# Altium integrated library Microchip DSC 16-Bit dsPIC33F.IntLib: 595 symbols (part 15 of 31)
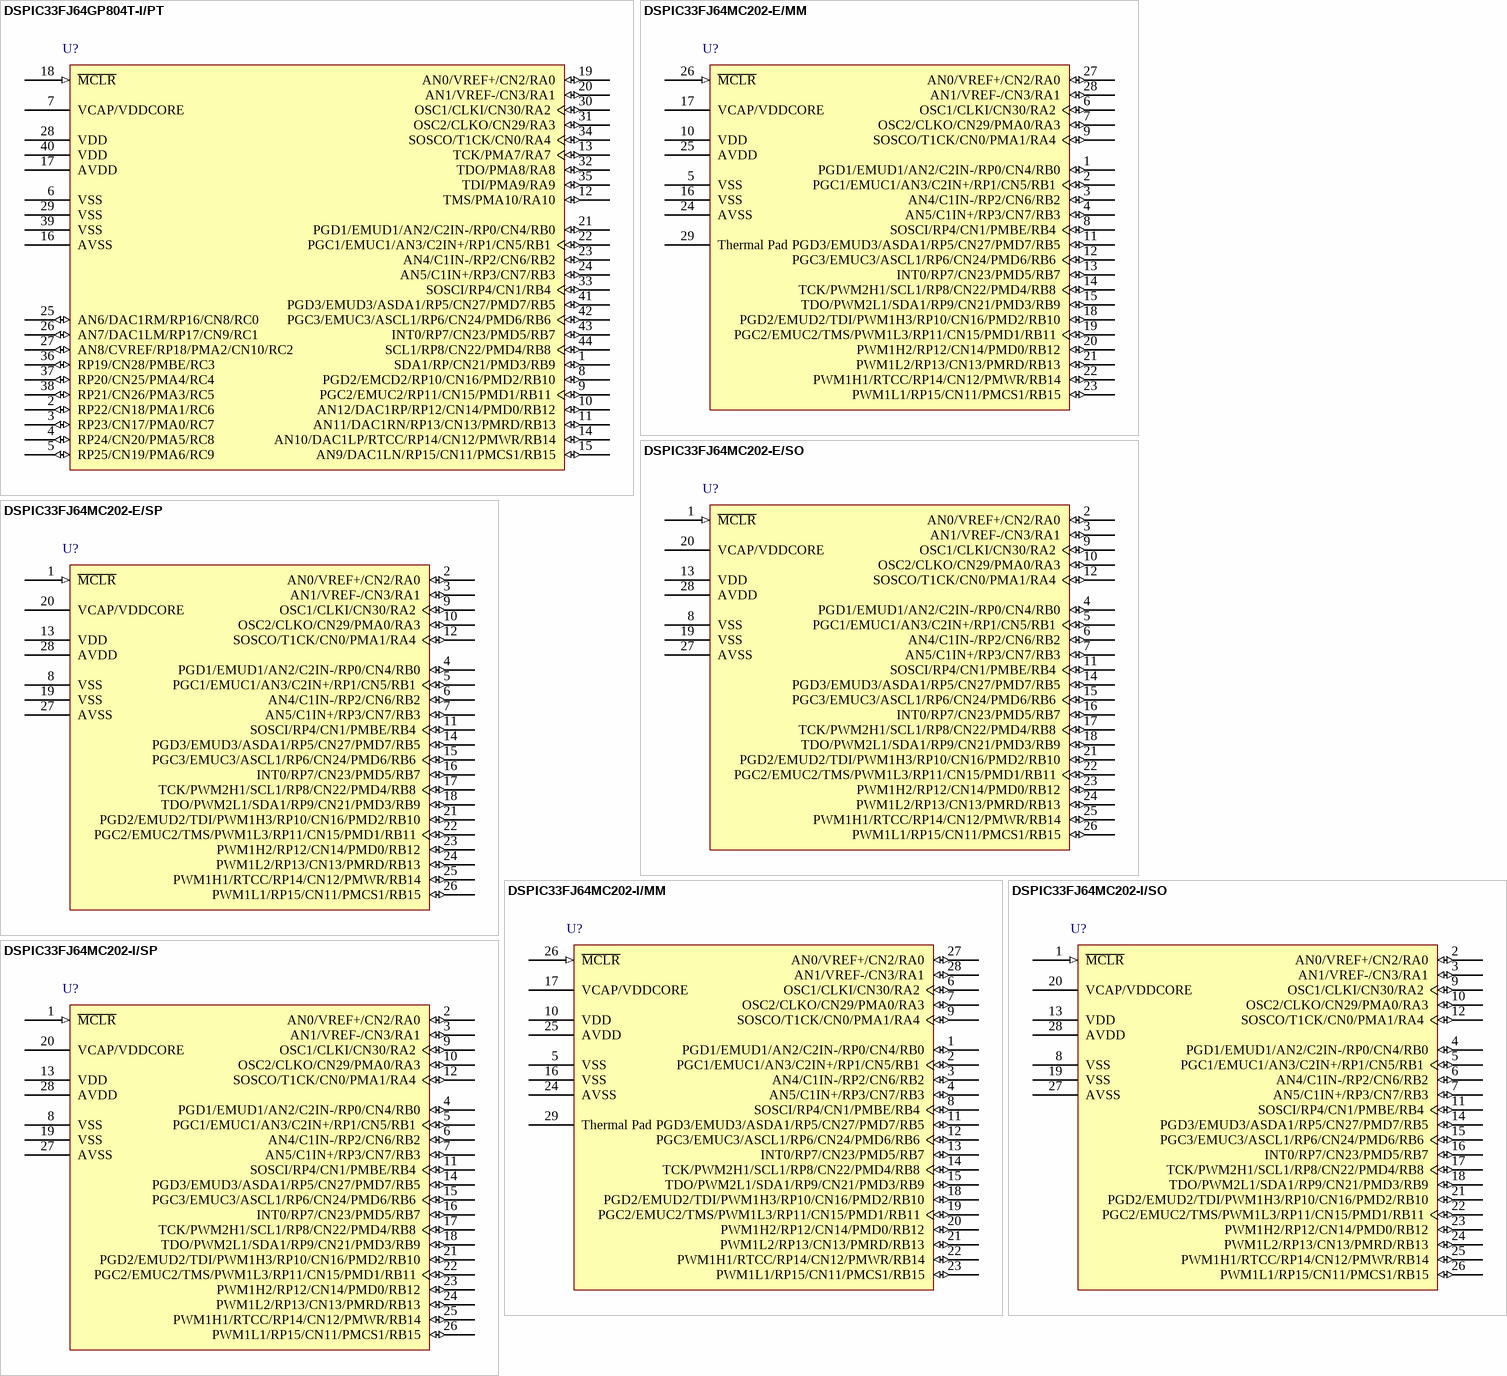
[diagram p132: symbols DSPIC33FJ64GP804T-I/PT to DSPIC33FJ64MC202-I/SP]

## DSPIC33FJ64MC202-E/SP
designator U?
High-Performance 16-bit Digital Signal Controller, 64 KB Flash, 8 KB RAM, 28-Pin SPDIP, Extended High Temperature; FirstPublished: 29-Jan-2009; LatestRevisionDate: 02-Dec-2009; LatestRevisionNote: Updated to datasheet revision D, Nov-2009; DatasheetVersion: revD, Nov-2009; PackageVersion: revBB, Aug-2009; PackageReference: SPDIP300-SP28; Publisher: Altium Limited; PackageDescription: 28-Lead Skinny Plastic Dual In-Line (SP) - 300 mil Body [SPDIP]; Supplier 1: Digi-Key; Supplier Part Number 1: DSPIC33FJ64MC202-E/SP-ND; Supplier 2: Newark; Supplier Part Number 2: 39M8234; ComponentLink1Description: Datasheet; ComponentLink1URL: http://ww1.microchip.com/downloads/en/DeviceDoc/70291D.pdf; ComponentLink2Description: Packaging Specification; ComponentLink2URL: http://www.microchip.com/stellent/groups/techpub_sg/documents/packagingspec/en012702.pdf; ComponentLink3Description: Microchip.com Home; ComponentLink3URL: http://www.microchip.com/
footprint SPDIP300-SP28 (DIP, 28-Leads, Row Spacing 7.62mm, Pitch 2.54mm, Body 34.9x6.8mm)
pins: 1 ~{MCLR} (in), 2 AN0/VREF+/CN2/RA0 (io), 3 AN1/VREF-/CN3/RA1 (io), 4 PGD1/EMUD1/AN2/C2IN-/RP0/CN4/RB0 (io), 5 PGC1/EMUC1/AN3/C2IN+/RP1/CN5/RB1 (io), 6 AN4/C1IN-/RP2/CN6/RB2 (io), 7 AN5/C1IN+/RP3/CN7/RB3 (io), 8 VSS (power), 9 OSC1/CLKI/CN30/RA2 (io), 10 OSC2/CLKO/CN29/PMA0/RA3 (io), 11 SOSCI/RP4/CN1/PMBE/RB4 (io), 12 SOSCO/T1CK/CN0/PMA1/RA4 (io), 13 VDD (power), 14 PGD3/EMUD3/ASDA1/RP5/CN27/PMD7/RB5 (io), 15 PGC3/EMUC3/ASCL1/RP6/CN24/PMD6/RB6 (io), 16 INT0/RP7/CN23/PMD5/RB7 (io), 17 TCK/PWM2H1/SCL1/RP8/CN22/PMD4/RB8 (io), 18 TDO/PWM2L1/SDA1/RP9/CN21/PMD3/RB9 (io), 19 VSS (power), 20 VCAP/VDDCORE (power), 21 PGD2/EMUD2/TDI/PWM1H3/RP10/CN16/PMD2/RB10 (io), 22 PGC2/EMUC2/TMS/PWM1L3/RP11/CN15/PMD1/RB11 (io), 23 PWM1H2/RP12/CN14/PMD0/RB12 (io), 24 PWM1L2/RP13/CN13/PMRD/RB13 (io), 25 PWM1H1/RTCC/RP14/CN12/PMWR/RB14 (io), 26 PWM1L1/RP15/CN11/PMCS1/RB15 (io), 27 AVSS (power), 28 AVDD (power)

## DSPIC33FJ64MC202-I/MM
designator U?
High-Performance 16-bit Digital Signal Controller, 64 KB Flash, 8 KB RAM, 28-Pin QFN, Industrial Temperature; FirstPublished: 2-Dec-2009; DatasheetVersion: revD, Nov-2009; PackageVersion: revBB, Aug-2009; PackageReference: QFNS-MM28; Publisher: Altium Limited; PackageDescription: 28-Lead Plastic Quad Flat, No Lead Package (MM) - 6x6x0.9 mm Body [QFN-S] with 0.40 mm Contact Length; Supplier 1: Digi-Key; Supplier Part Number 1: DSPIC33FJ64MC202-I/MM-ND; Supplier 2: Farnell; Supplier Part Number 2: 1576833; Supplier 3: Newark; Supplier Part Number 3: 77M2377; ComponentLink1Description: Datasheet; ComponentLink1URL: http://ww1.microchip.com/downloads/en/DeviceDoc/70291D.pdf; ComponentLink2Description: Packaging Specification; ComponentLink2URL: http://www.microchip.com/stellent/groups/techpub_sg/documents/packagingspec/en012702.pdf; ComponentLink3Description: Microchip.com Home; ComponentLink3URL: http://www.microchip.com/
footprint QFNS-MM28_N (QFN, 28-Leads, Body 6x6 mm, Pitch 0.65mm, IPC Medium Density)
footprint QFNS-MM28_L (QFN, 28-Leads, Body 6x6 mm, Pitch 0.65mm, IPC High Density)
footprint QFNS-MM28_M (QFN, 28-Leads, Body 6x6 mm, Pitch 0.65mm, IPC Low Density)
pins: 1 PGD1/EMUD1/AN2/C2IN-/RP0/CN4/RB0 (io), 2 PGC1/EMUC1/AN3/C2IN+/RP1/CN5/RB1 (io), 3 AN4/C1IN-/RP2/CN6/RB2 (io), 4 AN5/C1IN+/RP3/CN7/RB3 (io), 5 VSS (power), 6 OSC1/CLKI/CN30/RA2 (io), 7 OSC2/CLKO/CN29/PMA0/RA3 (io), 8 SOSCI/RP4/CN1/PMBE/RB4 (io), 9 SOSCO/T1CK/CN0/PMA1/RA4 (io), 10 VDD (power), 11 PGD3/EMUD3/ASDA1/RP5/CN27/PMD7/RB5 (io), 12 PGC3/EMUC3/ASCL1/RP6/CN24/PMD6/RB6 (io), 13 INT0/RP7/CN23/PMD5/RB7 (io), 14 TCK/PWM2H1/SCL1/RP8/CN22/PMD4/RB8 (io), 15 TDO/PWM2L1/SDA1/RP9/CN21/PMD3/RB9 (io), 16 VSS (power), 17 VCAP/VDDCORE (power), 18 PGD2/EMUD2/TDI/PWM1H3/RP10/CN16/PMD2/RB10 (io), 19 PGC2/EMUC2/TMS/PWM1L3/RP11/CN15/PMD1/RB11 (io), 20 PWM1H2/RP12/CN14/PMD0/RB12 (io), 21 PWM1L2/RP13/CN13/PMRD/RB13 (io), 22 PWM1H1/RTCC/RP14/CN12/PMWR/RB14 (io), 23 PWM1L1/RP15/CN11/PMCS1/RB15 (io), 24 AVSS (power), 25 AVDD (power), 26 ~{MCLR} (in), 27 AN0/VREF+/CN2/RA0 (io), 28 AN1/VREF-/CN3/RA1 (io), 29 Thermal Pad

## DSPIC33FJ64MC202-I/SO
designator U?
High-Performance 16-bit Digital Signal Controller, 64 KB Flash, 8 KB RAM, 28-Pin SOIC, Industrial Temperature; FirstPublished: 2-Dec-2009; DatasheetVersion: revD, Nov-2009; PackageVersion: revBB, Aug-2009; PackageReference: SOIC-SO28; Publisher: Altium Limited; PackageDescription: 28-Lead Plastic Small Outline (SO) - Wide 7.50mm Body [SOIC]; Supplier 1: Digi-Key; Supplier Part Number 1: DSPIC33FJ64MC202-I/SO-ND; Supplier 2: Farnell; Supplier Part Number 2: 1576834; Supplier 3: Newark; Supplier Part Number 3: 39M8235; Code_JEDEC: MS-013; ComponentLink1Description: Datasheet; ComponentLink1URL: http://ww1.microchip.com/downloads/en/DeviceDoc/70291D.pdf; ComponentLink2Description: Packaging Specification; ComponentLink2URL: http://www.microchip.com/stellent/groups/techpub_sg/documents/packagingspec/en012702.pdf; ComponentLink3Description: Microchip.com Home; ComponentLink3URL: http://www.microchip.com/
footprint SOIC-SO28_N (SOIC, 28-Leads, Body 17.9x7.5mm, Pitch 1.27mm, IPC Medium Density)
footprint SOIC-SO28_L (SOIC, 28-Leads, Body 17.9x7.5mm, Pitch 1.27mm, IPC High Density)
footprint SOIC-SO28_M (SOIC, 28-Leads, Body 17.9x7.5mm, Pitch 1.27mm, IPC Low Density)
pins: 1 ~{MCLR} (in), 2 AN0/VREF+/CN2/RA0 (io), 3 AN1/VREF-/CN3/RA1 (io), 4 PGD1/EMUD1/AN2/C2IN-/RP0/CN4/RB0 (io), 5 PGC1/EMUC1/AN3/C2IN+/RP1/CN5/RB1 (io), 6 AN4/C1IN-/RP2/CN6/RB2 (io), 7 AN5/C1IN+/RP3/CN7/RB3 (io), 8 VSS (power), 9 OSC1/CLKI/CN30/RA2 (io), 10 OSC2/CLKO/CN29/PMA0/RA3 (io), 11 SOSCI/RP4/CN1/PMBE/RB4 (io), 12 SOSCO/T1CK/CN0/PMA1/RA4 (io), 13 VDD (power), 14 PGD3/EMUD3/ASDA1/RP5/CN27/PMD7/RB5 (io), 15 PGC3/EMUC3/ASCL1/RP6/CN24/PMD6/RB6 (io), 16 INT0/RP7/CN23/PMD5/RB7 (io), 17 TCK/PWM2H1/SCL1/RP8/CN22/PMD4/RB8 (io), 18 TDO/PWM2L1/SDA1/RP9/CN21/PMD3/RB9 (io), 19 VSS (power), 20 VCAP/VDDCORE (power), 21 PGD2/EMUD2/TDI/PWM1H3/RP10/CN16/PMD2/RB10 (io), 22 PGC2/EMUC2/TMS/PWM1L3/RP11/CN15/PMD1/RB11 (io), 23 PWM1H2/RP12/CN14/PMD0/RB12 (io), 24 PWM1L2/RP13/CN13/PMRD/RB13 (io), 25 PWM1H1/RTCC/RP14/CN12/PMWR/RB14 (io), 26 PWM1L1/RP15/CN11/PMCS1/RB15 (io), 27 AVSS (power), 28 AVDD (power)

## DSPIC33FJ64MC202-I/SP
designator U?
High-Performance 16-bit Digital Signal Controller, 64 KB Flash, 8 KB RAM, 28-Pin SPDIP, Industrial Temperature; FirstPublished: 29-Jan-2009; LatestRevisionDate: 02-Dec-2009; LatestRevisionNote: Updated to datasheet revision D, Nov-2009; DatasheetVersion: revD, Nov-2009; PackageVersion: revBB, Aug-2009; PackageReference: SPDIP300-SP28; Publisher: Altium Limited; PackageDescription: 28-Lead Skinny Plastic Dual In-Line (SP) - 300 mil Body [SPDIP]; Supplier 1: Digi-Key; Supplier Part Number 1: DSPIC33FJ64MC202-I/SP-ND; Supplier 2: Farnell; Supplier Part Number 2: 1576836; Supplier 3: Newark; Supplier Part Number 3: 39M8236; ComponentLink1Description: Datasheet; ComponentLink1URL: http://ww1.microchip.com/downloads/en/DeviceDoc/70291D.pdf; ComponentLink2Description: Packaging Specification; ComponentLink2URL: http://www.microchip.com/stellent/groups/techpub_sg/documents/packagingspec/en012702.pdf; ComponentLink3Description: Microchip.com Home; ComponentLink3URL: http://www.microchip.com/
footprint SPDIP300-SP28 (DIP, 28-Leads, Row Spacing 7.62mm, Pitch 2.54mm, Body 34.9x6.8mm)
pins: 1 ~{MCLR} (in), 2 AN0/VREF+/CN2/RA0 (io), 3 AN1/VREF-/CN3/RA1 (io), 4 PGD1/EMUD1/AN2/C2IN-/RP0/CN4/RB0 (io), 5 PGC1/EMUC1/AN3/C2IN+/RP1/CN5/RB1 (io), 6 AN4/C1IN-/RP2/CN6/RB2 (io), 7 AN5/C1IN+/RP3/CN7/RB3 (io), 8 VSS (power), 9 OSC1/CLKI/CN30/RA2 (io), 10 OSC2/CLKO/CN29/PMA0/RA3 (io), 11 SOSCI/RP4/CN1/PMBE/RB4 (io), 12 SOSCO/T1CK/CN0/PMA1/RA4 (io), 13 VDD (power), 14 PGD3/EMUD3/ASDA1/RP5/CN27/PMD7/RB5 (io), 15 PGC3/EMUC3/ASCL1/RP6/CN24/PMD6/RB6 (io), 16 INT0/RP7/CN23/PMD5/RB7 (io), 17 TCK/PWM2H1/SCL1/RP8/CN22/PMD4/RB8 (io), 18 TDO/PWM2L1/SDA1/RP9/CN21/PMD3/RB9 (io), 19 VSS (power), 20 VCAP/VDDCORE (power), 21 PGD2/EMUD2/TDI/PWM1H3/RP10/CN16/PMD2/RB10 (io), 22 PGC2/EMUC2/TMS/PWM1L3/RP11/CN15/PMD1/RB11 (io), 23 PWM1H2/RP12/CN14/PMD0/RB12 (io), 24 PWM1L2/RP13/CN13/PMRD/RB13 (io), 25 PWM1H1/RTCC/RP14/CN12/PMWR/RB14 (io), 26 PWM1L1/RP15/CN11/PMCS1/RB15 (io), 27 AVSS (power), 28 AVDD (power)

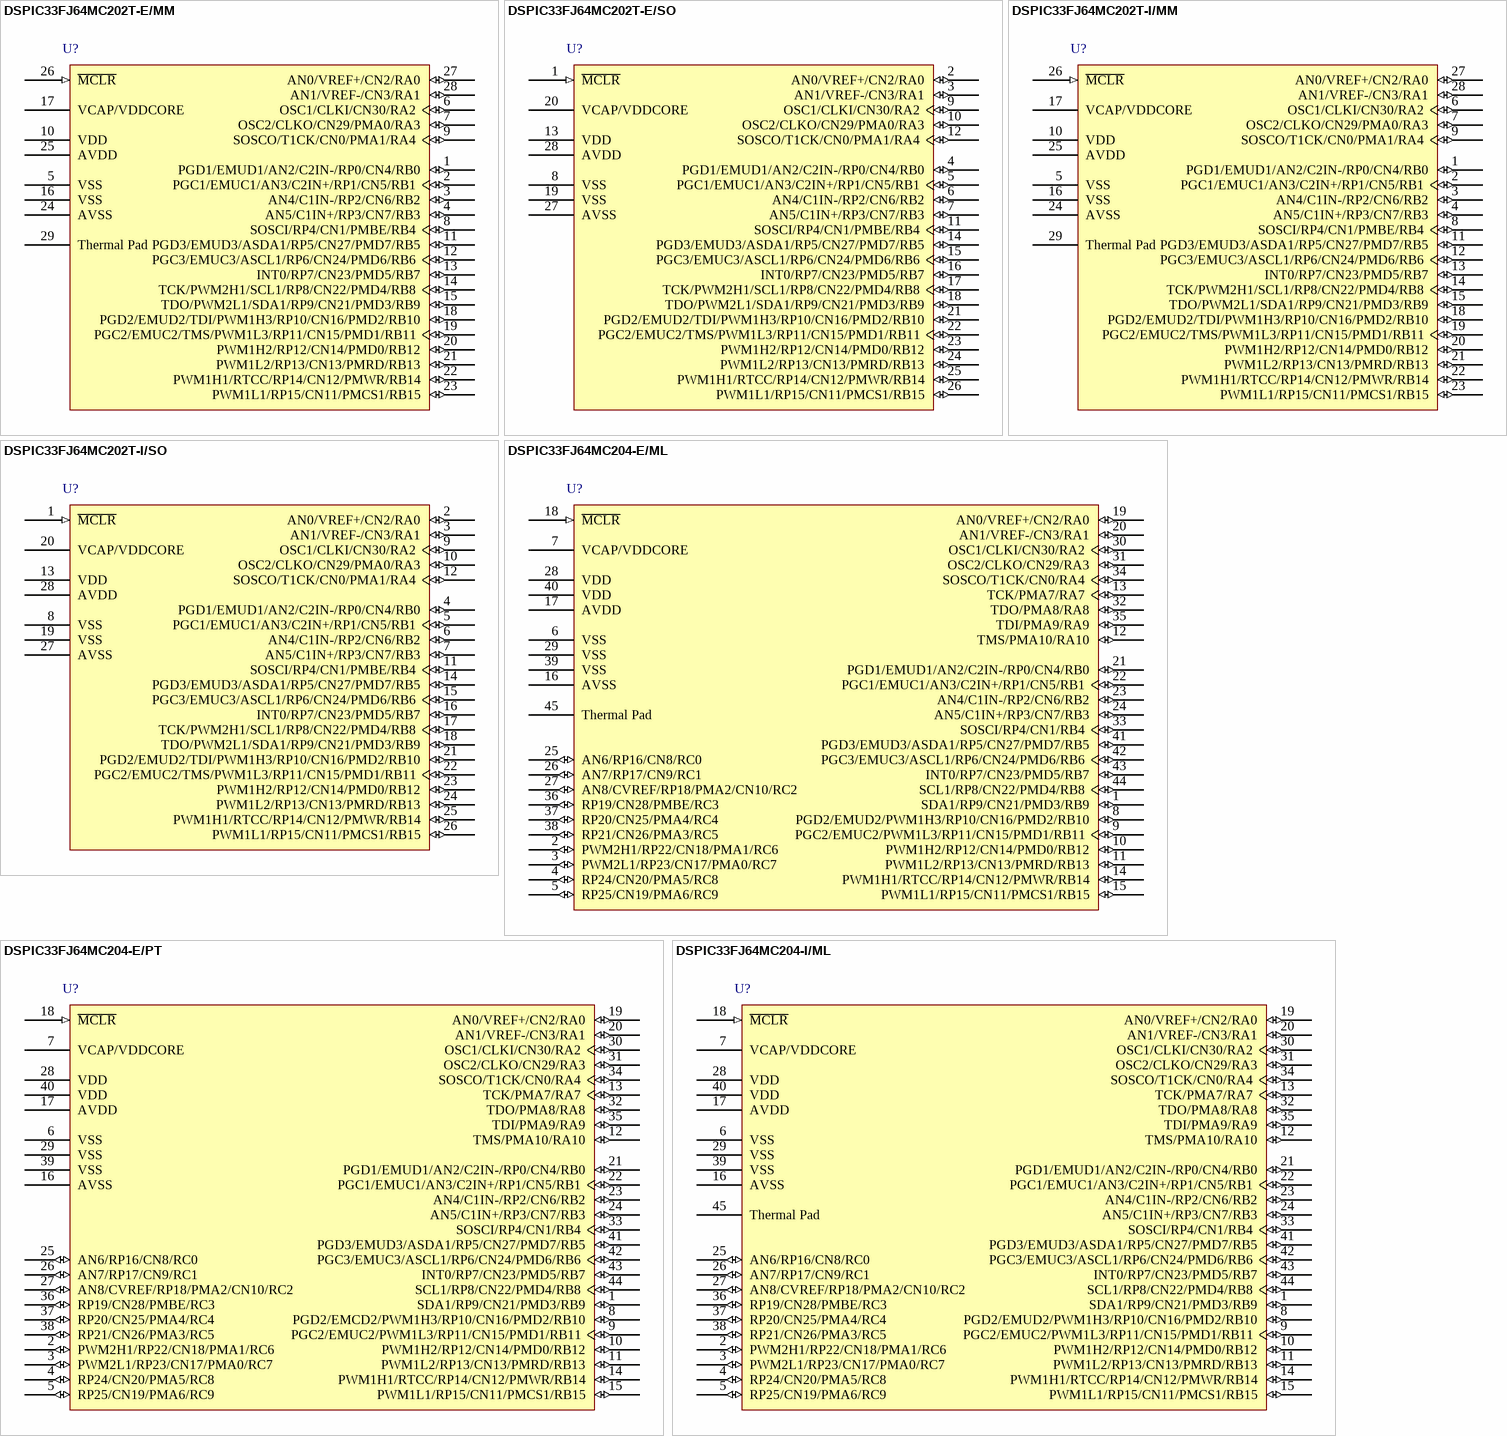
[diagram p48: symbols DSPIC33FJ64MC202T-E/MM to DSPIC33FJ64MC204-I/ML]

## DSPIC33FJ64MC202T-E/MM
designator U?
High-Performance 16-bit Digital Signal Controller, 64 KB Flash, 8 KB RAM, 28-Pin QFN, Extended High Temperature, Tape and Reel; FirstPublished: 29-Jan-2009; LatestRevisionDate: 02-Dec-2009; LatestRevisionNote: Updated to datasheet revision D, Nov-2009; DatasheetVersion: revD, Nov-2009; PackageVersion: revBB, Aug-2009; PackageReference: QFNS-MM28; Publisher: Altium Limited; PackageDescription: 28-Lead Plastic Quad Flat, No Lead Package (MM) - 6x6x0.9 mm Body [QFN-S] with 0.40 mm Contact Length; ComponentLink1Description: Datasheet; ComponentLink1URL: http://ww1.microchip.com/downloads/en/DeviceDoc/70291D.pdf; ComponentLink2Description: Packaging Specification; ComponentLink2URL: http://www.microchip.com/stellent/groups/techpub_sg/documents/packagingspec/en012702.pdf; ComponentLink3Description: Microchip.com Home; ComponentLink3URL: http://www.microchip.com/
footprint QFNS-MM28_N (QFN, 28-Leads, Body 6x6 mm, Pitch 0.65mm, IPC Medium Density)
footprint QFNS-MM28_L (QFN, 28-Leads, Body 6x6 mm, Pitch 0.65mm, IPC High Density)
footprint QFNS-MM28_M (QFN, 28-Leads, Body 6x6 mm, Pitch 0.65mm, IPC Low Density)
pins: 1 PGD1/EMUD1/AN2/C2IN-/RP0/CN4/RB0 (io), 2 PGC1/EMUC1/AN3/C2IN+/RP1/CN5/RB1 (io), 3 AN4/C1IN-/RP2/CN6/RB2 (io), 4 AN5/C1IN+/RP3/CN7/RB3 (io), 5 VSS (power), 6 OSC1/CLKI/CN30/RA2 (io), 7 OSC2/CLKO/CN29/PMA0/RA3 (io), 8 SOSCI/RP4/CN1/PMBE/RB4 (io), 9 SOSCO/T1CK/CN0/PMA1/RA4 (io), 10 VDD (power), 11 PGD3/EMUD3/ASDA1/RP5/CN27/PMD7/RB5 (io), 12 PGC3/EMUC3/ASCL1/RP6/CN24/PMD6/RB6 (io), 13 INT0/RP7/CN23/PMD5/RB7 (io), 14 TCK/PWM2H1/SCL1/RP8/CN22/PMD4/RB8 (io), 15 TDO/PWM2L1/SDA1/RP9/CN21/PMD3/RB9 (io), 16 VSS (power), 17 VCAP/VDDCORE (power), 18 PGD2/EMUD2/TDI/PWM1H3/RP10/CN16/PMD2/RB10 (io), 19 PGC2/EMUC2/TMS/PWM1L3/RP11/CN15/PMD1/RB11 (io), 20 PWM1H2/RP12/CN14/PMD0/RB12 (io), 21 PWM1L2/RP13/CN13/PMRD/RB13 (io), 22 PWM1H1/RTCC/RP14/CN12/PMWR/RB14 (io), 23 PWM1L1/RP15/CN11/PMCS1/RB15 (io), 24 AVSS (power), 25 AVDD (power), 26 ~{MCLR} (in), 27 AN0/VREF+/CN2/RA0 (io), 28 AN1/VREF-/CN3/RA1 (io), 29 Thermal Pad

## DSPIC33FJ64MC202T-E/SO
designator U?
High-Performance 16-bit Digital Signal Controller, 64 KB Flash, 8 KB RAM, 28-Pin SOIC, Extended High Temperature, Tape and Reel; FirstPublished: 29-Jan-2009; LatestRevisionDate: 02-Dec-2009; LatestRevisionNote: Updated to datasheet revision D, Nov-2009; DatasheetVersion: revD, Nov-2009; PackageVersion: revBB, Aug-2009; PackageReference: SOIC-SO28; Publisher: Altium Limited; PackageDescription: 28-Lead Plastic Small Outline (SO) - Wide 7.50mm Body [SOIC]; Code_JEDEC: MS-013; ComponentLink1Description: Datasheet; ComponentLink1URL: http://ww1.microchip.com/downloads/en/DeviceDoc/70291D.pdf; ComponentLink2Description: Packaging Specification; ComponentLink2URL: http://www.microchip.com/stellent/groups/techpub_sg/documents/packagingspec/en012702.pdf; ComponentLink3Description: Microchip.com Home; ComponentLink3URL: http://www.microchip.com/
footprint SOIC-SO28_N (SOIC, 28-Leads, Body 17.9x7.5mm, Pitch 1.27mm, IPC Medium Density)
footprint SOIC-SO28_L (SOIC, 28-Leads, Body 17.9x7.5mm, Pitch 1.27mm, IPC High Density)
footprint SOIC-SO28_M (SOIC, 28-Leads, Body 17.9x7.5mm, Pitch 1.27mm, IPC Low Density)
pins: 1 ~{MCLR} (in), 2 AN0/VREF+/CN2/RA0 (io), 3 AN1/VREF-/CN3/RA1 (io), 4 PGD1/EMUD1/AN2/C2IN-/RP0/CN4/RB0 (io), 5 PGC1/EMUC1/AN3/C2IN+/RP1/CN5/RB1 (io), 6 AN4/C1IN-/RP2/CN6/RB2 (io), 7 AN5/C1IN+/RP3/CN7/RB3 (io), 8 VSS (power), 9 OSC1/CLKI/CN30/RA2 (io), 10 OSC2/CLKO/CN29/PMA0/RA3 (io), 11 SOSCI/RP4/CN1/PMBE/RB4 (io), 12 SOSCO/T1CK/CN0/PMA1/RA4 (io), 13 VDD (power), 14 PGD3/EMUD3/ASDA1/RP5/CN27/PMD7/RB5 (io), 15 PGC3/EMUC3/ASCL1/RP6/CN24/PMD6/RB6 (io), 16 INT0/RP7/CN23/PMD5/RB7 (io), 17 TCK/PWM2H1/SCL1/RP8/CN22/PMD4/RB8 (io), 18 TDO/PWM2L1/SDA1/RP9/CN21/PMD3/RB9 (io), 19 VSS (power), 20 VCAP/VDDCORE (power), 21 PGD2/EMUD2/TDI/PWM1H3/RP10/CN16/PMD2/RB10 (io), 22 PGC2/EMUC2/TMS/PWM1L3/RP11/CN15/PMD1/RB11 (io), 23 PWM1H2/RP12/CN14/PMD0/RB12 (io), 24 PWM1L2/RP13/CN13/PMRD/RB13 (io), 25 PWM1H1/RTCC/RP14/CN12/PMWR/RB14 (io), 26 PWM1L1/RP15/CN11/PMCS1/RB15 (io), 27 AVSS (power), 28 AVDD (power)

## DSPIC33FJ64MC202T-I/MM
designator U?
High-Performance 16-bit Digital Signal Controller, 64 KB Flash, 8 KB RAM, 28-Pin QFN, Industrial Temperature, Tape and Reel; FirstPublished: 29-Jan-2009; LatestRevisionDate: 02-Dec-2009; LatestRevisionNote: Updated to datasheet revision D, Nov-2009; DatasheetVersion: revD, Nov-2009; PackageVersion: revBB, Aug-2009; PackageReference: QFNS-MM28; Publisher: Altium Limited; PackageDescription: 28-Lead Plastic Quad Flat, No Lead Package (MM) - 6x6x0.9 mm Body [QFN-S] with 0.40 mm Contact Length; Supplier 1: Digi-Key; Supplier Part Number 1: DSPIC33FJ64MC202T-I/MM-ND; Supplier 2: Newark; Supplier Part Number 2: 77M2378; ComponentLink1Description: Datasheet; ComponentLink1URL: http://ww1.microchip.com/downloads/en/DeviceDoc/70291D.pdf; ComponentLink2Description: Packaging Specification; ComponentLink2URL: http://www.microchip.com/stellent/groups/techpub_sg/documents/packagingspec/en012702.pdf; ComponentLink3Description: Microchip.com Home; ComponentLink3URL: http://www.microchip.com/
footprint QFNS-MM28_N (QFN, 28-Leads, Body 6x6 mm, Pitch 0.65mm, IPC Medium Density)
footprint QFNS-MM28_L (QFN, 28-Leads, Body 6x6 mm, Pitch 0.65mm, IPC High Density)
footprint QFNS-MM28_M (QFN, 28-Leads, Body 6x6 mm, Pitch 0.65mm, IPC Low Density)
pins: 1 PGD1/EMUD1/AN2/C2IN-/RP0/CN4/RB0 (io), 2 PGC1/EMUC1/AN3/C2IN+/RP1/CN5/RB1 (io), 3 AN4/C1IN-/RP2/CN6/RB2 (io), 4 AN5/C1IN+/RP3/CN7/RB3 (io), 5 VSS (power), 6 OSC1/CLKI/CN30/RA2 (io), 7 OSC2/CLKO/CN29/PMA0/RA3 (io), 8 SOSCI/RP4/CN1/PMBE/RB4 (io), 9 SOSCO/T1CK/CN0/PMA1/RA4 (io), 10 VDD (power), 11 PGD3/EMUD3/ASDA1/RP5/CN27/PMD7/RB5 (io), 12 PGC3/EMUC3/ASCL1/RP6/CN24/PMD6/RB6 (io), 13 INT0/RP7/CN23/PMD5/RB7 (io), 14 TCK/PWM2H1/SCL1/RP8/CN22/PMD4/RB8 (io), 15 TDO/PWM2L1/SDA1/RP9/CN21/PMD3/RB9 (io), 16 VSS (power), 17 VCAP/VDDCORE (power), 18 PGD2/EMUD2/TDI/PWM1H3/RP10/CN16/PMD2/RB10 (io), 19 PGC2/EMUC2/TMS/PWM1L3/RP11/CN15/PMD1/RB11 (io), 20 PWM1H2/RP12/CN14/PMD0/RB12 (io), 21 PWM1L2/RP13/CN13/PMRD/RB13 (io), 22 PWM1H1/RTCC/RP14/CN12/PMWR/RB14 (io), 23 PWM1L1/RP15/CN11/PMCS1/RB15 (io), 24 AVSS (power), 25 AVDD (power), 26 ~{MCLR} (in), 27 AN0/VREF+/CN2/RA0 (io), 28 AN1/VREF-/CN3/RA1 (io), 29 Thermal Pad

## DSPIC33FJ64MC202T-I/SO
designator U?
High-Performance 16-bit Digital Signal Controller, 64 KB Flash, 8 KB RAM, 28-Pin SOIC, Industrial Temperature, Tape and Reel; FirstPublished: 29-Jan-2009; LatestRevisionDate: 02-Dec-2009; LatestRevisionNote: Updated to datasheet revision D, Nov-2009; DatasheetVersion: revD, Nov-2009; PackageVersion: revBB, Aug-2009; PackageReference: SOIC-SO28; Publisher: Altium Limited; PackageDescription: 28-Lead Plastic Small Outline (SO) - Wide 7.50mm Body [SOIC]; Supplier 1: Digi-Key; Supplier Part Number 1: DSPIC33FJ64MC202T-I/SOTR-ND; Supplier 2: Newark; Supplier Part Number 2: 39M8237; Code_JEDEC: MS-013; ComponentLink1Description: Datasheet; ComponentLink1URL: http://ww1.microchip.com/downloads/en/DeviceDoc/70291D.pdf; ComponentLink2Description: Packaging Specification; ComponentLink2URL: http://www.microchip.com/stellent/groups/techpub_sg/documents/packagingspec/en012702.pdf; ComponentLink3Description: Microchip.com Home; ComponentLink3URL: http://www.microchip.com/
footprint SOIC-SO28_N (SOIC, 28-Leads, Body 17.9x7.5mm, Pitch 1.27mm, IPC Medium Density)
footprint SOIC-SO28_L (SOIC, 28-Leads, Body 17.9x7.5mm, Pitch 1.27mm, IPC High Density)
footprint SOIC-SO28_M (SOIC, 28-Leads, Body 17.9x7.5mm, Pitch 1.27mm, IPC Low Density)
pins: 1 ~{MCLR} (in), 2 AN0/VREF+/CN2/RA0 (io), 3 AN1/VREF-/CN3/RA1 (io), 4 PGD1/EMUD1/AN2/C2IN-/RP0/CN4/RB0 (io), 5 PGC1/EMUC1/AN3/C2IN+/RP1/CN5/RB1 (io), 6 AN4/C1IN-/RP2/CN6/RB2 (io), 7 AN5/C1IN+/RP3/CN7/RB3 (io), 8 VSS (power), 9 OSC1/CLKI/CN30/RA2 (io), 10 OSC2/CLKO/CN29/PMA0/RA3 (io), 11 SOSCI/RP4/CN1/PMBE/RB4 (io), 12 SOSCO/T1CK/CN0/PMA1/RA4 (io), 13 VDD (power), 14 PGD3/EMUD3/ASDA1/RP5/CN27/PMD7/RB5 (io), 15 PGC3/EMUC3/ASCL1/RP6/CN24/PMD6/RB6 (io), 16 INT0/RP7/CN23/PMD5/RB7 (io), 17 TCK/PWM2H1/SCL1/RP8/CN22/PMD4/RB8 (io), 18 TDO/PWM2L1/SDA1/RP9/CN21/PMD3/RB9 (io), 19 VSS (power), 20 VCAP/VDDCORE (power), 21 PGD2/EMUD2/TDI/PWM1H3/RP10/CN16/PMD2/RB10 (io), 22 PGC2/EMUC2/TMS/PWM1L3/RP11/CN15/PMD1/RB11 (io), 23 PWM1H2/RP12/CN14/PMD0/RB12 (io), 24 PWM1L2/RP13/CN13/PMRD/RB13 (io), 25 PWM1H1/RTCC/RP14/CN12/PMWR/RB14 (io), 26 PWM1L1/RP15/CN11/PMCS1/RB15 (io), 27 AVSS (power), 28 AVDD (power)

## DSPIC33FJ64MC204-E/ML
designator U?
High-Performance 16-bit Digital Signal Controller, 64 KB Flash, 8 KB RAM, 44-Pin QFN, Extended High Temperature; FirstPublished: 29-Jan-2009; LatestRevisionDate: 02-Dec-2009; LatestRevisionNote: Updated to datasheet revision D, Nov-2009; DatasheetVersion: revD, Nov-2009; PackageVersion: revBB, Aug-2009; PackageReference: QFN-ML44; Publisher: Altium Limited; PackageDescription: 44-Lead Plastic Quad Flat, No Lead Package (ML) - 8x8 mm Body [QFN]; Supplier 1: Digi-Key; Supplier Part Number 1: DSPIC33FJ64MC204-E/ML-ND; Supplier 2: Newark; Supplier Part Number 2: 39M8238; Code_JEDEC: MO-220; Code_IPC: QFN65P800X800-44V2; ComponentLink1Description: Datasheet; ComponentLink1URL: http://ww1.microchip.com/downloads/en/DeviceDoc/70291D.pdf; ComponentLink2Description: Packaging Specification; ComponentLink2URL: http://www.microchip.com/stellent/groups/techpub_sg/documents/packagingspec/en012702.pdf; ComponentLink3Description: Microchip.com Home; ComponentLink3URL: http://www.microchip.com/
footprint QFN-ML44_N (QFN, 44-Leads, Body 8x8 mm, Pitch 0.65mm, IPC Medium Density)
footprint QFN-ML44_L (QFN, 44-Leads, Body 8x8 mm, Pitch 0.65mm, IPC High Density)
footprint QFN-ML44_M (QFN, 44-Leads, Body 8x8 mm, Pitch 0.65mm, IPC Low Density)
pins: 1 SDA1/RP9/CN21/PMD3/RB9 (io), 2 PWM2H1/RP22/CN18/PMA1/RC6 (io), 3 PWM2L1/RP23/CN17/PMA0/RC7 (io), 4 RP24/CN20/PMA5/RC8 (io), 5 RP25/CN19/PMA6/RC9 (io), 6 VSS (power), 7 VCAP/VDDCORE (power), 8 PGD2/EMUD2/PWM1H3/RP10/CN16/PMD2/RB10 (io), 9 PGC2/EMUC2/PWM1L3/RP11/CN15/PMD1/RB11 (io), 10 PWM1H2/RP12/CN14/PMD0/RB12 (io), 11 PWM1L2/RP13/CN13/PMRD/RB13 (io), 12 TMS/PMA10/RA10 (io), 13 TCK/PMA7/RA7 (io), 14 PWM1H1/RTCC/RP14/CN12/PMWR/RB14 (io), 15 PWM1L1/RP15/CN11/PMCS1/RB15 (io), 16 AVSS (power), 17 AVDD (power), 18 ~{MCLR} (in), 19 AN0/VREF+/CN2/RA0 (io), 20 AN1/VREF-/CN3/RA1 (io), 21 PGD1/EMUD1/AN2/C2IN-/RP0/CN4/RB0 (io), 22 PGC1/EMUC1/AN3/C2IN+/RP1/CN5/RB1 (io), 23 AN4/C1IN-/RP2/CN6/RB2 (io), 24 AN5/C1IN+/RP3/CN7/RB3 (io), 25 AN6/RP16/CN8/RC0 (io), 26 AN7/RP17/CN9/RC1 (io), 27 AN8/CVREF/RP18/PMA2/CN10/RC2 (io), 28 VDD (power), 29 VSS (power), 30 OSC1/CLKI/CN30/RA2 (io), 31 OSC2/CLKO/CN29/RA3 (io), 32 TDO/PMA8/RA8 (io), 33 SOSCI/RP4/CN1/RB4 (io), 34 SOSCO/T1CK/CN0/RA4 (io), 35 TDI/PMA9/RA9 (io), 36 RP19/CN28/PMBE/RC3 (io), 37 RP20/CN25/PMA4/RC4 (io), 38 RP21/CN26/PMA3/RC5 (io), 39 VSS (power), 40 VDD (power), 41 PGD3/EMUD3/ASDA1/RP5/CN27/PMD7/RB5 (io), 42 PGC3/EMUC3/ASCL1/RP6/CN24/PMD6/RB6 (io), 43 INT0/RP7/CN23/PMD5/RB7 (io), 44 SCL1/RP8/CN22/PMD4/RB8 (io), 45 Thermal Pad

## DSPIC33FJ64MC204-E/PT
designator U?
High-Performance 16-bit Digital Signal Controller, 64 KB Flash, 8 KB RAM, 44-Pin TQFP, Extended High Temperature; FirstPublished: 29-Jan-2009; LatestRevisionDate: 02-Dec-2009; LatestRevisionNote: Updated to datasheet revision D, Nov-2009; DatasheetVersion: revD, Nov-2009; PackageVersion: revBB, Aug-2009; PackageReference: TQFP-PT44; Publisher: Altium Limited; PackageDescription: 44-Lead Plastic Thin Quad Flatpack (PT) - 10x10x1mm Body, 2.00mm [TQFP]; Supplier 1: Digi-Key; Supplier Part Number 1: DSPIC33FJ64MC204-E/PT-ND; Supplier 2: Newark; Supplier Part Number 2: 39M8239; Code_JEDEC: MS-026; ComponentLink1Description: Datasheet; ComponentLink1URL: http://ww1.microchip.com/downloads/en/DeviceDoc/70291D.pdf; ComponentLink2Description: Packaging Specification; ComponentLink2URL: http://www.microchip.com/stellent/groups/techpub_sg/documents/packagingspec/en012702.pdf; ComponentLink3Description: Microchip.com Home; ComponentLink3URL: http://www.microchip.com/
footprint TQFP-PT44_N (Thin QFP, 44-Leads, Body 10x10mm, Pitch 0.8mm, IPC Medium Density)
footprint TQFP-PT44_L (Thin QFP, 44-Leads, Body 10x10mm, Pitch 0.8mm, IPC High Density)
footprint TQFP-PT44_M (Thin QFP, 44-Leads, Body 10x10mm, Pitch 0.8mm, IPC Low Density)
pins: 1 SDA1/RP9/CN21/PMD3/RB9 (io), 2 PWM2H1/RP22/CN18/PMA1/RC6 (io), 3 PWM2L1/RP23/CN17/PMA0/RC7 (io), 4 RP24/CN20/PMA5/RC8 (io), 5 RP25/CN19/PMA6/RC9 (io), 6 VSS (power), 7 VCAP/VDDCORE (power), 8 PGD2/EMCD2/PWM1H3/RP10/CN16/PMD2/RB10 (io), 9 PGC2/EMUC2/PWM1L3/RP11/CN15/PMD1/RB11 (io), 10 PWM1H2/RP12/CN14/PMD0/RB12 (io), 11 PWM1L2/RP13/CN13/PMRD/RB13 (io), 12 TMS/PMA10/RA10 (io), 13 TCK/PMA7/RA7 (io), 14 PWM1H1/RTCC/RP14/CN12/PMWR/RB14 (io), 15 PWM1L1/RP15/CN11/PMCS1/RB15 (io), 16 AVSS (power), 17 AVDD (power), 18 ~{MCLR} (in), 19 AN0/VREF+/CN2/RA0 (io), 20 AN1/VREF-/CN3/RA1 (io), 21 PGD1/EMUD1/AN2/C2IN-/RP0/CN4/RB0 (io), 22 PGC1/EMUC1/AN3/C2IN+/RP1/CN5/RB1 (io), 23 AN4/C1IN-/RP2/CN6/RB2 (io), 24 AN5/C1IN+/RP3/CN7/RB3 (io), 25 AN6/RP16/CN8/RC0 (io), 26 AN7/RP17/CN9/RC1 (io), 27 AN8/CVREF/RP18/PMA2/CN10/RC2 (io), 28 VDD (power), 29 VSS (power), 30 OSC1/CLKI/CN30/RA2 (io), 31 OSC2/CLKO/CN29/RA3 (io), 32 TDO/PMA8/RA8 (io), 33 SOSCI/RP4/CN1/RB4 (io), 34 SOSCO/T1CK/CN0/RA4 (io), 35 TDI/PMA9/RA9 (io), 36 RP19/CN28/PMBE/RC3 (io), 37 RP20/CN25/PMA4/RC4 (io), 38 RP21/CN26/PMA3/RC5 (io), 39 VSS (power), 40 VDD (power), 41 PGD3/EMUD3/ASDA1/RP5/CN27/PMD7/RB5 (io), 42 PGC3/EMUC3/ASCL1/RP6/CN24/PMD6/RB6 (io), 43 INT0/RP7/CN23/PMD5/RB7 (io), 44 SCL1/RP8/CN22/PMD4/RB8 (io)

## DSPIC33FJ64MC204-I/ML
designator U?
High-Performance 16-bit Digital Signal Controller, 64 KB Flash, 8 KB RAM, 44-Pin QFN, Industrial Temperature; FirstPublished: 29-Jan-2009; LatestRevisionDate: 02-Dec-2009; LatestRevisionNote: Updated to datasheet revision D, Nov-2009; DatasheetVersion: revD, Nov-2009; PackageVersion: revBB, Aug-2009; PackageReference: QFN-ML44; Publisher: Altium Limited; PackageDescription: 44-Lead Plastic Quad Flat, No Lead Package (ML) - 8x8 mm Body [QFN]; Supplier 1: Digi-Key; Supplier Part Number 1: DSPIC33FJ64MC204-I/ML-ND; Supplier 2: Farnell; Supplier Part Number 2: 1576837; Supplier 3: Newark; Supplier Part Number 3: 39M8240; Code_JEDEC: MO-220; Code_IPC: QFN65P800X800-44V2; ComponentLink1Description: Datasheet; ComponentLink1URL: http://ww1.microchip.com/downloads/en/DeviceDoc/70291D.pdf; ComponentLink2Description: Packaging Specification; ComponentLink2URL: http://www.microchip.com/stellent/groups/techpub_sg/documents/packagingspec/en012702.pdf; ComponentLink3Description: Microchip.com Home; ComponentLink3URL: http://www.microchip.com/
footprint QFN-ML44_N (QFN, 44-Leads, Body 8x8 mm, Pitch 0.65mm, IPC Medium Density)
footprint QFN-ML44_L (QFN, 44-Leads, Body 8x8 mm, Pitch 0.65mm, IPC High Density)
footprint QFN-ML44_M (QFN, 44-Leads, Body 8x8 mm, Pitch 0.65mm, IPC Low Density)
pins: 1 SDA1/RP9/CN21/PMD3/RB9 (io), 2 PWM2H1/RP22/CN18/PMA1/RC6 (io), 3 PWM2L1/RP23/CN17/PMA0/RC7 (io), 4 RP24/CN20/PMA5/RC8 (io), 5 RP25/CN19/PMA6/RC9 (io), 6 VSS (power), 7 VCAP/VDDCORE (power), 8 PGD2/EMUD2/PWM1H3/RP10/CN16/PMD2/RB10 (io), 9 PGC2/EMUC2/PWM1L3/RP11/CN15/PMD1/RB11 (io), 10 PWM1H2/RP12/CN14/PMD0/RB12 (io), 11 PWM1L2/RP13/CN13/PMRD/RB13 (io), 12 TMS/PMA10/RA10 (io), 13 TCK/PMA7/RA7 (io), 14 PWM1H1/RTCC/RP14/CN12/PMWR/RB14 (io), 15 PWM1L1/RP15/CN11/PMCS1/RB15 (io), 16 AVSS (power), 17 AVDD (power), 18 ~{MCLR} (in), 19 AN0/VREF+/CN2/RA0 (io), 20 AN1/VREF-/CN3/RA1 (io), 21 PGD1/EMUD1/AN2/C2IN-/RP0/CN4/RB0 (io), 22 PGC1/EMUC1/AN3/C2IN+/RP1/CN5/RB1 (io), 23 AN4/C1IN-/RP2/CN6/RB2 (io), 24 AN5/C1IN+/RP3/CN7/RB3 (io), 25 AN6/RP16/CN8/RC0 (io), 26 AN7/RP17/CN9/RC1 (io), 27 AN8/CVREF/RP18/PMA2/CN10/RC2 (io), 28 VDD (power), 29 VSS (power), 30 OSC1/CLKI/CN30/RA2 (io), 31 OSC2/CLKO/CN29/RA3 (io), 32 TDO/PMA8/RA8 (io), 33 SOSCI/RP4/CN1/RB4 (io), 34 SOSCO/T1CK/CN0/RA4 (io), 35 TDI/PMA9/RA9 (io), 36 RP19/CN28/PMBE/RC3 (io), 37 RP20/CN25/PMA4/RC4 (io), 38 RP21/CN26/PMA3/RC5 (io), 39 VSS (power), 40 VDD (power), 41 PGD3/EMUD3/ASDA1/RP5/CN27/PMD7/RB5 (io), 42 PGC3/EMUC3/ASCL1/RP6/CN24/PMD6/RB6 (io), 43 INT0/RP7/CN23/PMD5/RB7 (io), 44 SCL1/RP8/CN22/PMD4/RB8 (io), 45 Thermal Pad

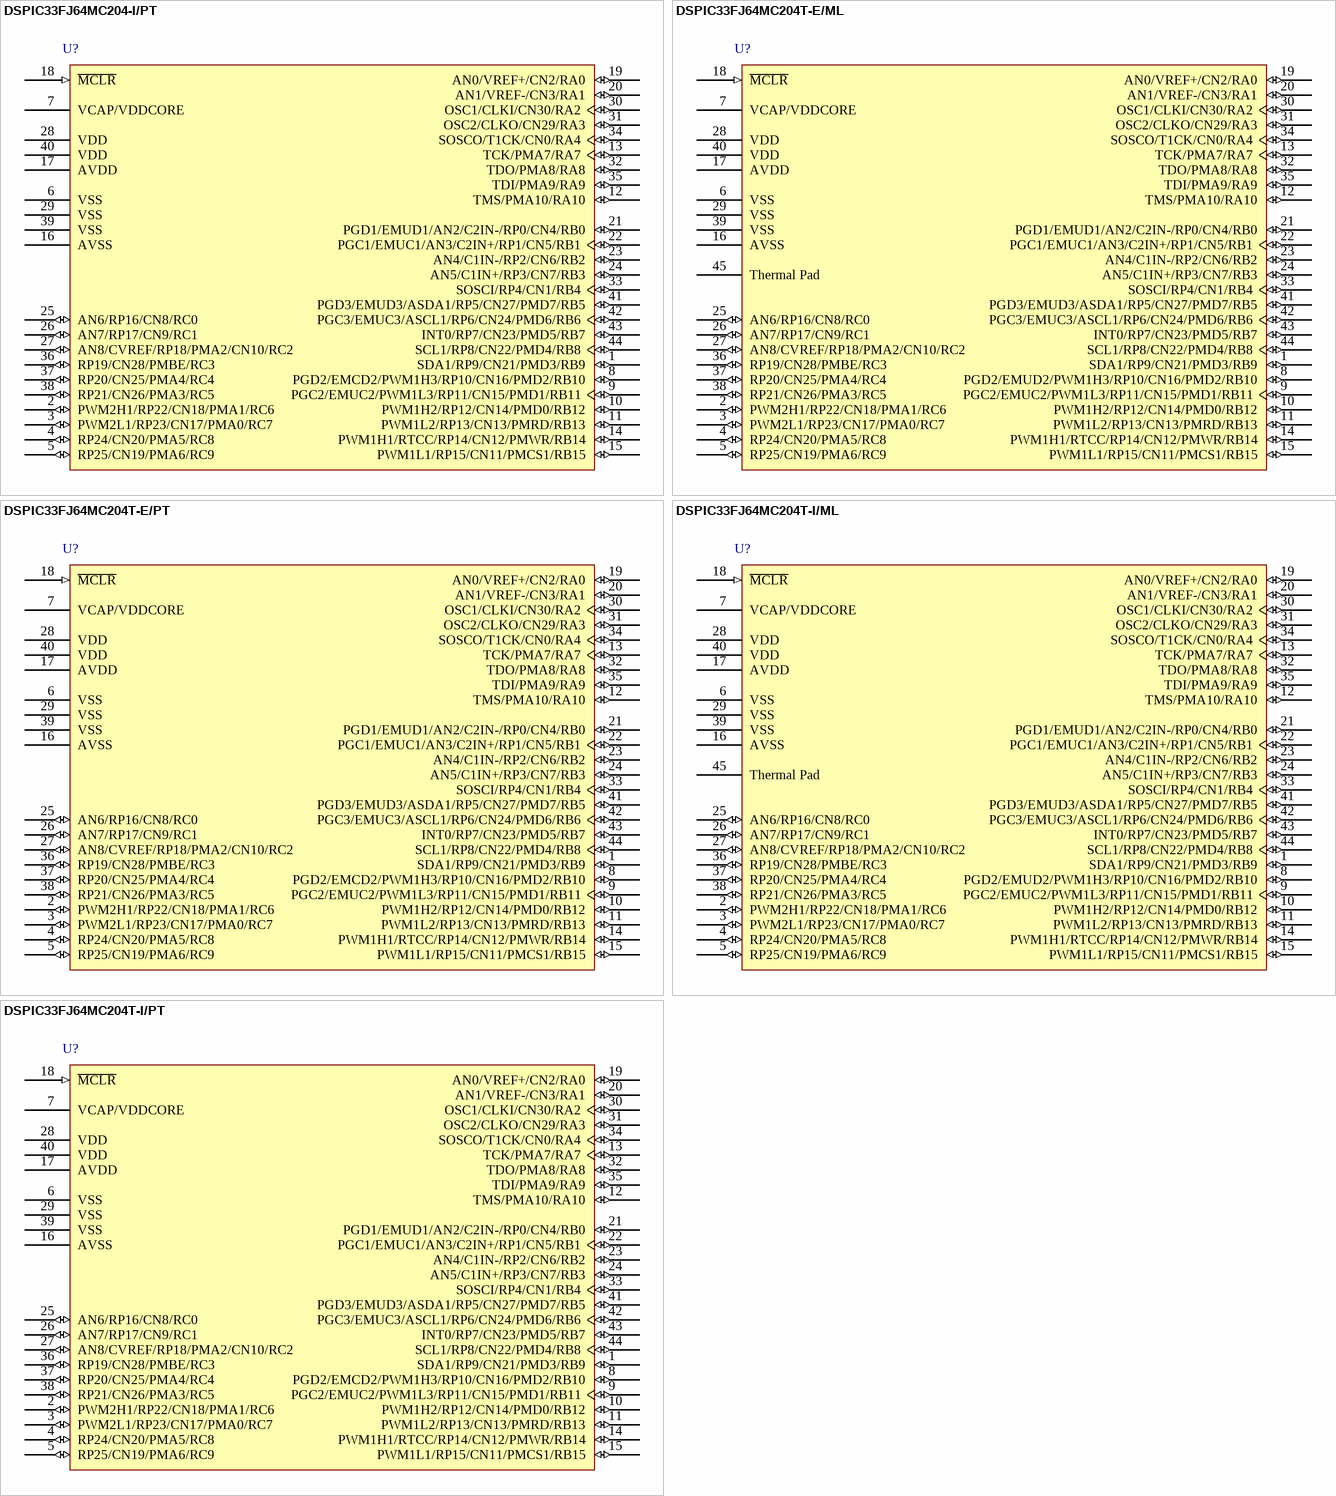
[diagram p49: symbols DSPIC33FJ64MC204-I/PT to DSPIC33FJ64MC204T-I/PT]

## DSPIC33FJ64MC204-I/PT
designator U?
High-Performance 16-bit Digital Signal Controller, 64 KB Flash, 8 KB RAM, 44-Pin TQFP, Industrial Temperature; FirstPublished: 2-Dec-2009; DatasheetVersion: revD, Nov-2009; PackageVersion: revBB, Aug-2009; PackageReference: TQFP-PT44; Publisher: Altium Limited; PackageDescription: 44-Lead Plastic Thin Quad Flatpack (PT) - 10x10x1mm Body, 2.00mm [TQFP]; Supplier 1: Digi-Key; Supplier Part Number 1: DSPIC33FJ64MC204-I/PT-ND; Supplier 2: Farnell; Supplier Part Number 2: 1576838; Supplier 3: Newark; Supplier Part Number 3: 39M8241; Code_JEDEC: MS-026; ComponentLink1Description: Datasheet; ComponentLink1URL: http://ww1.microchip.com/downloads/en/DeviceDoc/70291D.pdf; ComponentLink2Description: Packaging Specification; ComponentLink2URL: http://www.microchip.com/stellent/groups/techpub_sg/documents/packagingspec/en012702.pdf; ComponentLink3Description: Microchip.com Home; ComponentLink3URL: http://www.microchip.com/
footprint TQFP-PT44_N (Thin QFP, 44-Leads, Body 10x10mm, Pitch 0.8mm, IPC Medium Density)
footprint TQFP-PT44_L (Thin QFP, 44-Leads, Body 10x10mm, Pitch 0.8mm, IPC High Density)
footprint TQFP-PT44_M (Thin QFP, 44-Leads, Body 10x10mm, Pitch 0.8mm, IPC Low Density)
pins: 1 SDA1/RP9/CN21/PMD3/RB9 (io), 2 PWM2H1/RP22/CN18/PMA1/RC6 (io), 3 PWM2L1/RP23/CN17/PMA0/RC7 (io), 4 RP24/CN20/PMA5/RC8 (io), 5 RP25/CN19/PMA6/RC9 (io), 6 VSS (power), 7 VCAP/VDDCORE (power), 8 PGD2/EMCD2/PWM1H3/RP10/CN16/PMD2/RB10 (io), 9 PGC2/EMUC2/PWM1L3/RP11/CN15/PMD1/RB11 (io), 10 PWM1H2/RP12/CN14/PMD0/RB12 (io), 11 PWM1L2/RP13/CN13/PMRD/RB13 (io), 12 TMS/PMA10/RA10 (io), 13 TCK/PMA7/RA7 (io), 14 PWM1H1/RTCC/RP14/CN12/PMWR/RB14 (io), 15 PWM1L1/RP15/CN11/PMCS1/RB15 (io), 16 AVSS (power), 17 AVDD (power), 18 ~{MCLR} (in), 19 AN0/VREF+/CN2/RA0 (io), 20 AN1/VREF-/CN3/RA1 (io), 21 PGD1/EMUD1/AN2/C2IN-/RP0/CN4/RB0 (io), 22 PGC1/EMUC1/AN3/C2IN+/RP1/CN5/RB1 (io), 23 AN4/C1IN-/RP2/CN6/RB2 (io), 24 AN5/C1IN+/RP3/CN7/RB3 (io), 25 AN6/RP16/CN8/RC0 (io), 26 AN7/RP17/CN9/RC1 (io), 27 AN8/CVREF/RP18/PMA2/CN10/RC2 (io), 28 VDD (power), 29 VSS (power), 30 OSC1/CLKI/CN30/RA2 (io), 31 OSC2/CLKO/CN29/RA3 (io), 32 TDO/PMA8/RA8 (io), 33 SOSCI/RP4/CN1/RB4 (io), 34 SOSCO/T1CK/CN0/RA4 (io), 35 TDI/PMA9/RA9 (io), 36 RP19/CN28/PMBE/RC3 (io), 37 RP20/CN25/PMA4/RC4 (io), 38 RP21/CN26/PMA3/RC5 (io), 39 VSS (power), 40 VDD (power), 41 PGD3/EMUD3/ASDA1/RP5/CN27/PMD7/RB5 (io), 42 PGC3/EMUC3/ASCL1/RP6/CN24/PMD6/RB6 (io), 43 INT0/RP7/CN23/PMD5/RB7 (io), 44 SCL1/RP8/CN22/PMD4/RB8 (io)

## DSPIC33FJ64MC204T-E/ML
designator U?
High-Performance 16-bit Digital Signal Controller, 64 KB Flash, 8 KB RAM, 44-Pin QFN, Extended High Temperature, Tape and Reel; FirstPublished: 29-Jan-2009; LatestRevisionDate: 02-Dec-2009; LatestRevisionNote: Updated to datasheet revision D, Nov-2009; DatasheetVersion: revD, Nov-2009; PackageVersion: revBB, Aug-2009; PackageReference: QFN-ML44; Publisher: Altium Limited; PackageDescription: 44-Lead Plastic Quad Flat, No Lead Package (ML) - 8x8 mm Body [QFN]; Code_JEDEC: MO-220; Code_IPC: QFN65P800X800-44V2; ComponentLink1Description: Datasheet; ComponentLink1URL: http://ww1.microchip.com/downloads/en/DeviceDoc/70291D.pdf; ComponentLink2Description: Packaging Specification; ComponentLink2URL: http://www.microchip.com/stellent/groups/techpub_sg/documents/packagingspec/en012702.pdf; ComponentLink3Description: Microchip.com Home; ComponentLink3URL: http://www.microchip.com/
footprint QFN-ML44_N (QFN, 44-Leads, Body 8x8 mm, Pitch 0.65mm, IPC Medium Density)
footprint QFN-ML44_L (QFN, 44-Leads, Body 8x8 mm, Pitch 0.65mm, IPC High Density)
footprint QFN-ML44_M (QFN, 44-Leads, Body 8x8 mm, Pitch 0.65mm, IPC Low Density)
pins: 1 SDA1/RP9/CN21/PMD3/RB9 (io), 2 PWM2H1/RP22/CN18/PMA1/RC6 (io), 3 PWM2L1/RP23/CN17/PMA0/RC7 (io), 4 RP24/CN20/PMA5/RC8 (io), 5 RP25/CN19/PMA6/RC9 (io), 6 VSS (power), 7 VCAP/VDDCORE (power), 8 PGD2/EMUD2/PWM1H3/RP10/CN16/PMD2/RB10 (io), 9 PGC2/EMUC2/PWM1L3/RP11/CN15/PMD1/RB11 (io), 10 PWM1H2/RP12/CN14/PMD0/RB12 (io), 11 PWM1L2/RP13/CN13/PMRD/RB13 (io), 12 TMS/PMA10/RA10 (io), 13 TCK/PMA7/RA7 (io), 14 PWM1H1/RTCC/RP14/CN12/PMWR/RB14 (io), 15 PWM1L1/RP15/CN11/PMCS1/RB15 (io), 16 AVSS (power), 17 AVDD (power), 18 ~{MCLR} (in), 19 AN0/VREF+/CN2/RA0 (io), 20 AN1/VREF-/CN3/RA1 (io), 21 PGD1/EMUD1/AN2/C2IN-/RP0/CN4/RB0 (io), 22 PGC1/EMUC1/AN3/C2IN+/RP1/CN5/RB1 (io), 23 AN4/C1IN-/RP2/CN6/RB2 (io), 24 AN5/C1IN+/RP3/CN7/RB3 (io), 25 AN6/RP16/CN8/RC0 (io), 26 AN7/RP17/CN9/RC1 (io), 27 AN8/CVREF/RP18/PMA2/CN10/RC2 (io), 28 VDD (power), 29 VSS (power), 30 OSC1/CLKI/CN30/RA2 (io), 31 OSC2/CLKO/CN29/RA3 (io), 32 TDO/PMA8/RA8 (io), 33 SOSCI/RP4/CN1/RB4 (io), 34 SOSCO/T1CK/CN0/RA4 (io), 35 TDI/PMA9/RA9 (io), 36 RP19/CN28/PMBE/RC3 (io), 37 RP20/CN25/PMA4/RC4 (io), 38 RP21/CN26/PMA3/RC5 (io), 39 VSS (power), 40 VDD (power), 41 PGD3/EMUD3/ASDA1/RP5/CN27/PMD7/RB5 (io), 42 PGC3/EMUC3/ASCL1/RP6/CN24/PMD6/RB6 (io), 43 INT0/RP7/CN23/PMD5/RB7 (io), 44 SCL1/RP8/CN22/PMD4/RB8 (io), 45 Thermal Pad

## DSPIC33FJ64MC204T-E/PT
designator U?
High-Performance 16-bit Digital Signal Controller, 64 KB Flash, 8 KB RAM, 44-Pin TQFP, Extended High Temperature, Tape and Reel; FirstPublished: 29-Jan-2009; LatestRevisionDate: 02-Dec-2009; LatestRevisionNote: Updated to datasheet revision D, Nov-2009; DatasheetVersion: revD, Nov-2009; PackageVersion: revBB, Aug-2009; PackageReference: TQFP-PT44; Publisher: Altium Limited; PackageDescription: 44-Lead Plastic Thin Quad Flatpack (PT) - 10x10x1mm Body, 2.00mm [TQFP]; Code_JEDEC: MS-026; ComponentLink1Description: Datasheet; ComponentLink1URL: http://ww1.microchip.com/downloads/en/DeviceDoc/70291D.pdf; ComponentLink2Description: Packaging Specification; ComponentLink2URL: http://www.microchip.com/stellent/groups/techpub_sg/documents/packagingspec/en012702.pdf; ComponentLink3Description: Microchip.com Home; ComponentLink3URL: http://www.microchip.com/
footprint TQFP-PT44_N (Thin QFP, 44-Leads, Body 10x10mm, Pitch 0.8mm, IPC Medium Density)
footprint TQFP-PT44_L (Thin QFP, 44-Leads, Body 10x10mm, Pitch 0.8mm, IPC High Density)
footprint TQFP-PT44_M (Thin QFP, 44-Leads, Body 10x10mm, Pitch 0.8mm, IPC Low Density)
pins: 1 SDA1/RP9/CN21/PMD3/RB9 (io), 2 PWM2H1/RP22/CN18/PMA1/RC6 (io), 3 PWM2L1/RP23/CN17/PMA0/RC7 (io), 4 RP24/CN20/PMA5/RC8 (io), 5 RP25/CN19/PMA6/RC9 (io), 6 VSS (power), 7 VCAP/VDDCORE (power), 8 PGD2/EMCD2/PWM1H3/RP10/CN16/PMD2/RB10 (io), 9 PGC2/EMUC2/PWM1L3/RP11/CN15/PMD1/RB11 (io), 10 PWM1H2/RP12/CN14/PMD0/RB12 (io), 11 PWM1L2/RP13/CN13/PMRD/RB13 (io), 12 TMS/PMA10/RA10 (io), 13 TCK/PMA7/RA7 (io), 14 PWM1H1/RTCC/RP14/CN12/PMWR/RB14 (io), 15 PWM1L1/RP15/CN11/PMCS1/RB15 (io), 16 AVSS (power), 17 AVDD (power), 18 ~{MCLR} (in), 19 AN0/VREF+/CN2/RA0 (io), 20 AN1/VREF-/CN3/RA1 (io), 21 PGD1/EMUD1/AN2/C2IN-/RP0/CN4/RB0 (io), 22 PGC1/EMUC1/AN3/C2IN+/RP1/CN5/RB1 (io), 23 AN4/C1IN-/RP2/CN6/RB2 (io), 24 AN5/C1IN+/RP3/CN7/RB3 (io), 25 AN6/RP16/CN8/RC0 (io), 26 AN7/RP17/CN9/RC1 (io), 27 AN8/CVREF/RP18/PMA2/CN10/RC2 (io), 28 VDD (power), 29 VSS (power), 30 OSC1/CLKI/CN30/RA2 (io), 31 OSC2/CLKO/CN29/RA3 (io), 32 TDO/PMA8/RA8 (io), 33 SOSCI/RP4/CN1/RB4 (io), 34 SOSCO/T1CK/CN0/RA4 (io), 35 TDI/PMA9/RA9 (io), 36 RP19/CN28/PMBE/RC3 (io), 37 RP20/CN25/PMA4/RC4 (io), 38 RP21/CN26/PMA3/RC5 (io), 39 VSS (power), 40 VDD (power), 41 PGD3/EMUD3/ASDA1/RP5/CN27/PMD7/RB5 (io), 42 PGC3/EMUC3/ASCL1/RP6/CN24/PMD6/RB6 (io), 43 INT0/RP7/CN23/PMD5/RB7 (io), 44 SCL1/RP8/CN22/PMD4/RB8 (io)

## DSPIC33FJ64MC204T-I/ML
designator U?
High-Performance 16-bit Digital Signal Controller, 64 KB Flash, 8 KB RAM, 44-Pin QFN, Industrial Temperature, Tape and Reel; FirstPublished: 29-Jan-2009; LatestRevisionDate: 02-Dec-2009; LatestRevisionNote: Updated to datasheet revision D, Nov-2009; DatasheetVersion: revD, Nov-2009; PackageVersion: revBB, Aug-2009; PackageReference: QFN-ML44; Publisher: Altium Limited; PackageDescription: 44-Lead Plastic Quad Flat, No Lead Package (ML) - 8x8 mm Body [QFN]; Supplier 1: Digi-Key; Supplier Part Number 1: DSPIC33FJ64MC204T-I/MLTR-ND; Supplier 2: Newark; Supplier Part Number 2: 39M8242; Code_JEDEC: MO-220; Code_IPC: QFN65P800X800-44V2; ComponentLink1Description: Datasheet; ComponentLink1URL: http://ww1.microchip.com/downloads/en/DeviceDoc/70291D.pdf; ComponentLink2Description: Packaging Specification; ComponentLink2URL: http://www.microchip.com/stellent/groups/techpub_sg/documents/packagingspec/en012702.pdf; ComponentLink3Description: Microchip.com Home; ComponentLink3URL: http://www.microchip.com/
footprint QFN-ML44_N (QFN, 44-Leads, Body 8x8 mm, Pitch 0.65mm, IPC Medium Density)
footprint QFN-ML44_L (QFN, 44-Leads, Body 8x8 mm, Pitch 0.65mm, IPC High Density)
footprint QFN-ML44_M (QFN, 44-Leads, Body 8x8 mm, Pitch 0.65mm, IPC Low Density)
pins: 1 SDA1/RP9/CN21/PMD3/RB9 (io), 2 PWM2H1/RP22/CN18/PMA1/RC6 (io), 3 PWM2L1/RP23/CN17/PMA0/RC7 (io), 4 RP24/CN20/PMA5/RC8 (io), 5 RP25/CN19/PMA6/RC9 (io), 6 VSS (power), 7 VCAP/VDDCORE (power), 8 PGD2/EMUD2/PWM1H3/RP10/CN16/PMD2/RB10 (io), 9 PGC2/EMUC2/PWM1L3/RP11/CN15/PMD1/RB11 (io), 10 PWM1H2/RP12/CN14/PMD0/RB12 (io), 11 PWM1L2/RP13/CN13/PMRD/RB13 (io), 12 TMS/PMA10/RA10 (io), 13 TCK/PMA7/RA7 (io), 14 PWM1H1/RTCC/RP14/CN12/PMWR/RB14 (io), 15 PWM1L1/RP15/CN11/PMCS1/RB15 (io), 16 AVSS (power), 17 AVDD (power), 18 ~{MCLR} (in), 19 AN0/VREF+/CN2/RA0 (io), 20 AN1/VREF-/CN3/RA1 (io), 21 PGD1/EMUD1/AN2/C2IN-/RP0/CN4/RB0 (io), 22 PGC1/EMUC1/AN3/C2IN+/RP1/CN5/RB1 (io), 23 AN4/C1IN-/RP2/CN6/RB2 (io), 24 AN5/C1IN+/RP3/CN7/RB3 (io), 25 AN6/RP16/CN8/RC0 (io), 26 AN7/RP17/CN9/RC1 (io), 27 AN8/CVREF/RP18/PMA2/CN10/RC2 (io), 28 VDD (power), 29 VSS (power), 30 OSC1/CLKI/CN30/RA2 (io), 31 OSC2/CLKO/CN29/RA3 (io), 32 TDO/PMA8/RA8 (io), 33 SOSCI/RP4/CN1/RB4 (io), 34 SOSCO/T1CK/CN0/RA4 (io), 35 TDI/PMA9/RA9 (io), 36 RP19/CN28/PMBE/RC3 (io), 37 RP20/CN25/PMA4/RC4 (io), 38 RP21/CN26/PMA3/RC5 (io), 39 VSS (power), 40 VDD (power), 41 PGD3/EMUD3/ASDA1/RP5/CN27/PMD7/RB5 (io), 42 PGC3/EMUC3/ASCL1/RP6/CN24/PMD6/RB6 (io), 43 INT0/RP7/CN23/PMD5/RB7 (io), 44 SCL1/RP8/CN22/PMD4/RB8 (io), 45 Thermal Pad

## DSPIC33FJ64MC204T-I/PT
designator U?
High-Performance 16-bit Digital Signal Controller, 64 KB Flash, 8 KB RAM, 44-Pin TQFP, Industrial Temperature, Tape and Reel; FirstPublished: 29-Jan-2009; LatestRevisionDate: 02-Dec-2009; LatestRevisionNote: Updated to datasheet revision D, Nov-2009; DatasheetVersion: revD, Nov-2009; PackageVersion: revBB, Aug-2009; PackageReference: TQFP-PT44; Publisher: Altium Limited; PackageDescription: 44-Lead Plastic Thin Quad Flatpack (PT) - 10x10x1mm Body, 2.00mm [TQFP]; Supplier 1: Digi-Key; Supplier Part Number 1: DSPIC33FJ64MC204T-I/PTTR-ND; Supplier 2: Newark; Supplier Part Number 2: 39M8243; Code_JEDEC: MS-026; ComponentLink1Description: Datasheet; ComponentLink1URL: http://ww1.microchip.com/downloads/en/DeviceDoc/70291D.pdf; ComponentLink2Description: Packaging Specification; ComponentLink2URL: http://www.microchip.com/stellent/groups/techpub_sg/documents/packagingspec/en012702.pdf; ComponentLink3Description: Microchip.com Home; ComponentLink3URL: http://www.microchip.com/
footprint TQFP-PT44_N (Thin QFP, 44-Leads, Body 10x10mm, Pitch 0.8mm, IPC Medium Density)
footprint TQFP-PT44_L (Thin QFP, 44-Leads, Body 10x10mm, Pitch 0.8mm, IPC High Density)
footprint TQFP-PT44_M (Thin QFP, 44-Leads, Body 10x10mm, Pitch 0.8mm, IPC Low Density)
pins: 1 SDA1/RP9/CN21/PMD3/RB9 (io), 2 PWM2H1/RP22/CN18/PMA1/RC6 (io), 3 PWM2L1/RP23/CN17/PMA0/RC7 (io), 4 RP24/CN20/PMA5/RC8 (io), 5 RP25/CN19/PMA6/RC9 (io), 6 VSS (power), 7 VCAP/VDDCORE (power), 8 PGD2/EMCD2/PWM1H3/RP10/CN16/PMD2/RB10 (io), 9 PGC2/EMUC2/PWM1L3/RP11/CN15/PMD1/RB11 (io), 10 PWM1H2/RP12/CN14/PMD0/RB12 (io), 11 PWM1L2/RP13/CN13/PMRD/RB13 (io), 12 TMS/PMA10/RA10 (io), 13 TCK/PMA7/RA7 (io), 14 PWM1H1/RTCC/RP14/CN12/PMWR/RB14 (io), 15 PWM1L1/RP15/CN11/PMCS1/RB15 (io), 16 AVSS (power), 17 AVDD (power), 18 ~{MCLR} (in), 19 AN0/VREF+/CN2/RA0 (io), 20 AN1/VREF-/CN3/RA1 (io), 21 PGD1/EMUD1/AN2/C2IN-/RP0/CN4/RB0 (io), 22 PGC1/EMUC1/AN3/C2IN+/RP1/CN5/RB1 (io), 23 AN4/C1IN-/RP2/CN6/RB2 (io), 24 AN5/C1IN+/RP3/CN7/RB3 (io), 25 AN6/RP16/CN8/RC0 (io), 26 AN7/RP17/CN9/RC1 (io), 27 AN8/CVREF/RP18/PMA2/CN10/RC2 (io), 28 VDD (power), 29 VSS (power), 30 OSC1/CLKI/CN30/RA2 (io), 31 OSC2/CLKO/CN29/RA3 (io), 32 TDO/PMA8/RA8 (io), 33 SOSCI/RP4/CN1/RB4 (io), 34 SOSCO/T1CK/CN0/RA4 (io), 35 TDI/PMA9/RA9 (io), 36 RP19/CN28/PMBE/RC3 (io), 37 RP20/CN25/PMA4/RC4 (io), 38 RP21/CN26/PMA3/RC5 (io), 39 VSS (power), 40 VDD (power), 41 PGD3/EMUD3/ASDA1/RP5/CN27/PMD7/RB5 (io), 42 PGC3/EMUC3/ASCL1/RP6/CN24/PMD6/RB6 (io), 43 INT0/RP7/CN23/PMD5/RB7 (io), 44 SCL1/RP8/CN22/PMD4/RB8 (io)

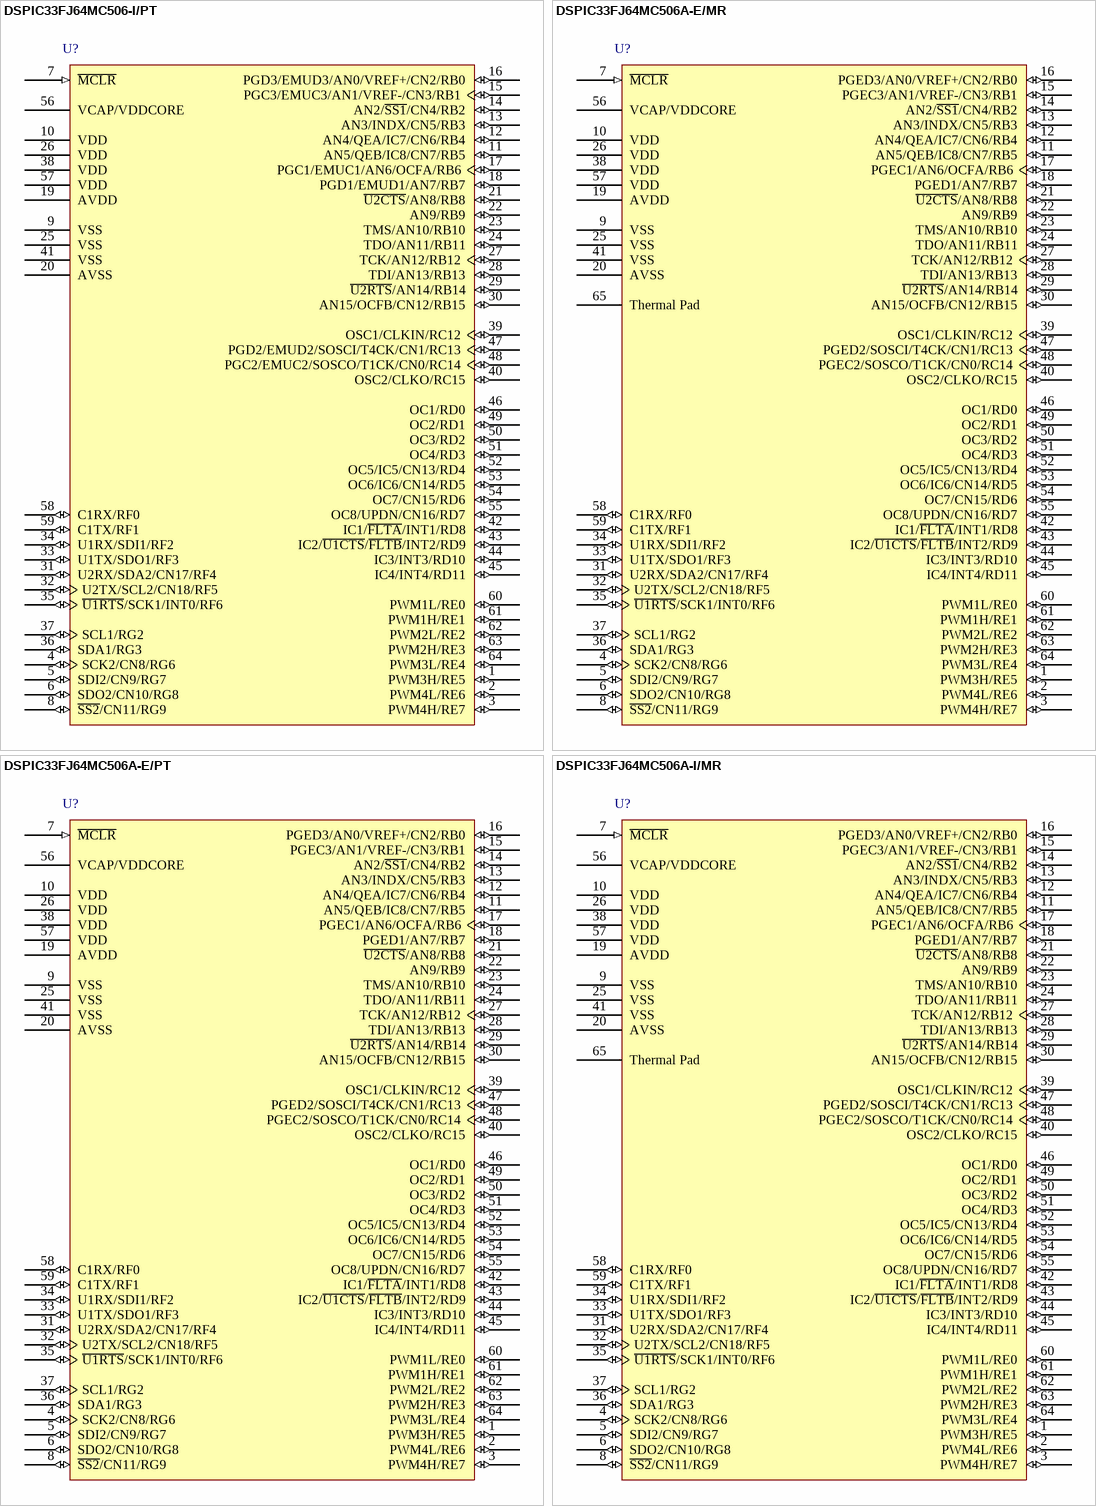
[diagram p50: symbols DSPIC33FJ64MC506-I/PT to DSPIC33FJ64MC506A-I/MR]

## DSPIC33FJ64MC506-I/PT
designator U?
High-Performance 16-bit Digital Signal Controller, 64 KB Flash, 8 KB RAM, 64-Pin TQFP, Industrial Temperature; FirstPublished: 29-Jan-2009; LatestRevisionDate: 02-Dec-2009; LatestRevisionNote: Updated to datasheet revision C, Mar-2009; DatasheetVersion: revC, Mar-2009; PackageVersion: revBB, Aug-2009; PackageReference: TQFP-PT64; Publisher: Altium Limited; PackageDescription: 64-Lead Thin Plastic Quad Flat Pack (PT) - 10x10x1mm Body, 2.00mm [TQFP]; Supplier 1: Digi-Key; Supplier Part Number 1: DSPIC33FJ64MC506-I/PT-ND; Supplier 2: Farnell; Supplier Part Number 2: 1294848; Supplier 3: Newark; Supplier Part Number 3: 56K6763; Code_JEDEC: MS-026; ComponentLink1Description: Datasheet; ComponentLink1URL: http://ww1.microchip.com/downloads/en/DeviceDoc/70287C.pdf; ComponentLink2Description: Packaging Specification; ComponentLink2URL: http://www.microchip.com/stellent/groups/techpub_sg/documents/packagingspec/en012702.pdf; ComponentLink3Description: Microchip.com Home; ComponentLink3URL: http://www.microchip.com/
footprint TQFP-PT64_N (Thin QFP, 64-Leads, Body 10x10mm, Pitch 0.5mm, IPC Medium Density)
footprint TQFP-PT64_L (Thin QFP, 64-Leads, Body 10x10mm, Pitch 0.5mm, IPC High Density)
footprint TQFP-PT64_M (Thin QFP, 64-Leads, Body 10x10mm, Pitch 0.5mm, IPC Low Density)
pins: 1 PWM3H/RE5 (io), 2 PWM4L/RE6 (io), 3 PWM4H/RE7 (io), 4 SCK2/CN8/RG6 (io), 5 SDI2/CN9/RG7 (io), 6 SDO2/CN10/RG8 (io), 7 ~{MCLR} (in), 8 ~{SS2}/CN11/RG9 (io), 9 VSS (power), 10 VDD (power), 11 AN5/QEB/IC8/CN7/RB5 (io), 12 AN4/QEA/IC7/CN6/RB4 (io), 13 AN3/INDX/CN5/RB3 (io), 14 AN2/~{SS1}/CN4/RB2 (io), 15 PGC3/EMUC3/AN1/VREF-/CN3/RB1 (io), 16 PGD3/EMUD3/AN0/VREF+/CN2/RB0 (io), 17 PGC1/EMUC1/AN6/OCFA/RB6 (io), 18 PGD1/EMUD1/AN7/RB7 (io), 19 AVDD (power), 20 AVSS (power), 21 ~{U2CTS}/AN8/RB8 (io), 22 AN9/RB9 (io), 23 TMS/AN10/RB10 (io), 24 TDO/AN11/RB11 (io), 25 VSS (power), 26 VDD (power), 27 TCK/AN12/RB12 (io), 28 TDI/AN13/RB13 (io), 29 ~{U2RTS}/AN14/RB14 (io), 30 AN15/OCFB/CN12/RB15 (io), 31 U2RX/SDA2/CN17/RF4 (io), 32 U2TX/SCL2/CN18/RF5 (io), 33 U1TX/SDO1/RF3 (io), 34 U1RX/SDI1/RF2 (io), 35 ~{U1RTS}/SCK1/INT0/RF6 (io), 36 SDA1/RG3 (io), 37 SCL1/RG2 (io), 38 VDD (power), 39 OSC1/CLKIN/RC12 (io), 40 OSC2/CLKO/RC15 (io), 41 VSS (power), 42 IC1/~{FLTA}/INT1/RD8 (io), 43 IC2/~{U1CTS}/~{FLTB}/INT2/RD9 (io), 44 IC3/INT3/RD10 (io), 45 IC4/INT4/RD11 (io), 46 OC1/RD0 (io), 47 PGD2/EMUD2/SOSCI/T4CK/CN1/RC13 (io), 48 PGC2/EMUC2/SOSCO/T1CK/CN0/RC14 (io), 49 OC2/RD1 (io), 50 OC3/RD2 (io), 51 OC4/RD3 (io), 52 OC5/IC5/CN13/RD4 (io), 53 OC6/IC6/CN14/RD5 (io), 54 OC7/CN15/RD6 (io), 55 OC8/UPDN/CN16/RD7 (io), 56 VCAP/VDDCORE (power), 57 VDD (power), 58 C1RX/RF0 (io), 59 C1TX/RF1 (io), 60 PWM1L/RE0 (io), 61 PWM1H/RE1 (io), 62 PWM2L/RE2 (io), 63 PWM2H/RE3 (io), 64 PWM3L/RE4 (io)

## DSPIC33FJ64MC506A-E/MR
designator U?
High-Performance 16-bit Digital Signal Controller, 64 KB Flash, 8 KB RAM , 64-Pin QFN, Extended High Temperature; FirstPublished: 2-Dec-2009; DatasheetVersion: revB, Oct-2009; PackageVersion: revBB, Aug-2009; PackageReference: QFN-MR64; Publisher: Altium Limited; PackageDescription: 64-Lead Plastic Quad Flat, No Lead Package (MR) - 9x9x0.9 mm Body [QFN]; Supplier 1: Digi-Key; Supplier Part Number 1: DSPIC33FJ64MC506A-E/MR-ND; Supplier 2: Newark; Supplier Part Number 2: 14R8780; ComponentLink1Description: Datasheet; ComponentLink1URL: http://ww1.microchip.com/downloads/en/DeviceDoc/70594B.pdf; ComponentLink2Description: Packaging Specification; ComponentLink2URL: http://www.microchip.com/stellent/groups/techpub_sg/documents/packagingspec/en012702.pdf; ComponentLink3Description: Microchip.com Home; ComponentLink3URL: http://www.microchip.com/
footprint QFN-MR64_N (QFN, 64-Leads, Body 9x9mm, Pitch 0.5mm, IPC Medium Density)
footprint QFN-MR64_L (QFN, 64-Leads, Body 9x9mm, Pitch 0.5mm, IPC High Density)
footprint QFN-MR64_M (QFN, 64-Leads, Body 9x9mm, Pitch 0.5mm, IPC Low Density)
pins: 1 PWM3H/RE5 (io), 2 PWM4L/RE6 (io), 3 PWM4H/RE7 (io), 4 SCK2/CN8/RG6 (io), 5 SDI2/CN9/RG7 (io), 6 SDO2/CN10/RG8 (io), 7 ~{MCLR} (in), 8 ~{SS2}/CN11/RG9 (io), 9 VSS (power), 10 VDD (power), 11 AN5/QEB/IC8/CN7/RB5 (io), 12 AN4/QEA/IC7/CN6/RB4 (io), 13 AN3/INDX/CN5/RB3 (io), 14 AN2/~{SS1}/CN4/RB2 (io), 15 PGEC3/AN1/VREF-/CN3/RB1 (io), 16 PGED3/AN0/VREF+/CN2/RB0 (io), 17 PGEC1/AN6/OCFA/RB6 (io), 18 PGED1/AN7/RB7 (io), 19 AVDD (power), 20 AVSS (power), 21 ~{U2CTS}/AN8/RB8 (io), 22 AN9/RB9 (io), 23 TMS/AN10/RB10 (io), 24 TDO/AN11/RB11 (io), 25 VSS (power), 26 VDD (power), 27 TCK/AN12/RB12 (io), 28 TDI/AN13/RB13 (io), 29 ~{U2RTS}/AN14/RB14 (io), 30 AN15/OCFB/CN12/RB15 (io), 31 U2RX/SDA2/CN17/RF4 (io), 32 U2TX/SCL2/CN18/RF5 (io), 33 U1TX/SDO1/RF3 (io), 34 U1RX/SDI1/RF2 (io), 35 ~{U1RTS}/SCK1/INT0/RF6 (io), 36 SDA1/RG3 (io), 37 SCL1/RG2 (io), 38 VDD (power), 39 OSC1/CLKIN/RC12 (io), 40 OSC2/CLKO/RC15 (io), 41 VSS (power), 42 IC1/~{FLTA}/INT1/RD8 (io), 43 IC2/~{U1CTS}/~{FLTB}/INT2/RD9 (io), 44 IC3/INT3/RD10 (io), 45 IC4/INT4/RD11 (io), 46 OC1/RD0 (io), 47 PGED2/SOSCI/T4CK/CN1/RC13 (io), 48 PGEC2/SOSCO/T1CK/CN0/RC14 (io), 49 OC2/RD1 (io), 50 OC3/RD2 (io), 51 OC4/RD3 (io), 52 OC5/IC5/CN13/RD4 (io), 53 OC6/IC6/CN14/RD5 (io), 54 OC7/CN15/RD6 (io), 55 OC8/UPDN/CN16/RD7 (io), 56 VCAP/VDDCORE (power), 57 VDD (power), 58 C1RX/RF0 (io), 59 C1TX/RF1 (io), 60 PWM1L/RE0 (io), 61 PWM1H/RE1 (io), 62 PWM2L/RE2 (io), 63 PWM2H/RE3 (io), 64 PWM3L/RE4 (io), 65 Thermal Pad

## DSPIC33FJ64MC506A-E/PT
designator U?
High-Performance 16-bit Digital Signal Controller, 64 KB Flash, 8 KB RAM , 64-Pin TQFP, Extended High Temperature; FirstPublished: 2-Dec-2009; DatasheetVersion: revB, Oct-2009; PackageVersion: revBB, Aug-2009; PackageReference: TQFP-PT64; Publisher: Altium Limited; PackageDescription: 64-Lead Thin Plastic Quad Flat Pack (PT) - 10x10x1mm Body, 2.00mm [TQFP]; Supplier 1: Digi-Key; Supplier Part Number 1: DSPIC33FJ64MC506A-E/PT-ND; Supplier 2: Newark; Supplier Part Number 2: 45P4695; Code_JEDEC: MS-026; ComponentLink1Description: Datasheet; ComponentLink1URL: http://ww1.microchip.com/downloads/en/DeviceDoc/70594B.pdf; ComponentLink2Description: Packaging Specification; ComponentLink2URL: http://www.microchip.com/stellent/groups/techpub_sg/documents/packagingspec/en012702.pdf; ComponentLink3Description: Microchip.com Home; ComponentLink3URL: http://www.microchip.com/
footprint TQFP-PT64_N (Thin QFP, 64-Leads, Body 10x10mm, Pitch 0.5mm, IPC Medium Density)
footprint TQFP-PT64_L (Thin QFP, 64-Leads, Body 10x10mm, Pitch 0.5mm, IPC High Density)
footprint TQFP-PT64_M (Thin QFP, 64-Leads, Body 10x10mm, Pitch 0.5mm, IPC Low Density)
pins: 1 PWM3H/RE5 (io), 2 PWM4L/RE6 (io), 3 PWM4H/RE7 (io), 4 SCK2/CN8/RG6 (io), 5 SDI2/CN9/RG7 (io), 6 SDO2/CN10/RG8 (io), 7 ~{MCLR} (in), 8 ~{SS2}/CN11/RG9 (io), 9 VSS (power), 10 VDD (power), 11 AN5/QEB/IC8/CN7/RB5 (io), 12 AN4/QEA/IC7/CN6/RB4 (io), 13 AN3/INDX/CN5/RB3 (io), 14 AN2/~{SS1}/CN4/RB2 (io), 15 PGEC3/AN1/VREF-/CN3/RB1 (io), 16 PGED3/AN0/VREF+/CN2/RB0 (io), 17 PGEC1/AN6/OCFA/RB6 (io), 18 PGED1/AN7/RB7 (io), 19 AVDD (power), 20 AVSS (power), 21 ~{U2CTS}/AN8/RB8 (io), 22 AN9/RB9 (io), 23 TMS/AN10/RB10 (io), 24 TDO/AN11/RB11 (io), 25 VSS (power), 26 VDD (power), 27 TCK/AN12/RB12 (io), 28 TDI/AN13/RB13 (io), 29 ~{U2RTS}/AN14/RB14 (io), 30 AN15/OCFB/CN12/RB15 (io), 31 U2RX/SDA2/CN17/RF4 (io), 32 U2TX/SCL2/CN18/RF5 (io), 33 U1TX/SDO1/RF3 (io), 34 U1RX/SDI1/RF2 (io), 35 ~{U1RTS}/SCK1/INT0/RF6 (io), 36 SDA1/RG3 (io), 37 SCL1/RG2 (io), 38 VDD (power), 39 OSC1/CLKIN/RC12 (io), 40 OSC2/CLKO/RC15 (io), 41 VSS (power), 42 IC1/~{FLTA}/INT1/RD8 (io), 43 IC2/~{U1CTS}/~{FLTB}/INT2/RD9 (io), 44 IC3/INT3/RD10 (io), 45 IC4/INT4/RD11 (io), 46 OC1/RD0 (io), 47 PGED2/SOSCI/T4CK/CN1/RC13 (io), 48 PGEC2/SOSCO/T1CK/CN0/RC14 (io), 49 OC2/RD1 (io), 50 OC3/RD2 (io), 51 OC4/RD3 (io), 52 OC5/IC5/CN13/RD4 (io), 53 OC6/IC6/CN14/RD5 (io), 54 OC7/CN15/RD6 (io), 55 OC8/UPDN/CN16/RD7 (io), 56 VCAP/VDDCORE (power), 57 VDD (power), 58 C1RX/RF0 (io), 59 C1TX/RF1 (io), 60 PWM1L/RE0 (io), 61 PWM1H/RE1 (io), 62 PWM2L/RE2 (io), 63 PWM2H/RE3 (io), 64 PWM3L/RE4 (io)

## DSPIC33FJ64MC506A-I/MR
designator U?
High-Performance 16-bit Digital Signal Controller, 64 KB Flash, 8 KB RAM , 64-Pin QFN, Industrial Temperature; FirstPublished: 2-Dec-2009; DatasheetVersion: revB, Oct-2009; PackageVersion: revBB, Aug-2009; PackageReference: QFN-MR64; Publisher: Altium Limited; PackageDescription: 64-Lead Plastic Quad Flat, No Lead Package (MR) - 9x9x0.9 mm Body [QFN]; Supplier 1: Digi-Key; Supplier Part Number 1: DSPIC33FJ64MC506A-I/MR-ND; Supplier 2: Newark; Supplier Part Number 2: 14R8781; ComponentLink1Description: Datasheet; ComponentLink1URL: http://ww1.microchip.com/downloads/en/DeviceDoc/70594B.pdf; ComponentLink2Description: Packaging Specification; ComponentLink2URL: http://www.microchip.com/stellent/groups/techpub_sg/documents/packagingspec/en012702.pdf; ComponentLink3Description: Microchip.com Home; ComponentLink3URL: http://www.microchip.com/
footprint QFN-MR64_N (QFN, 64-Leads, Body 9x9mm, Pitch 0.5mm, IPC Medium Density)
footprint QFN-MR64_L (QFN, 64-Leads, Body 9x9mm, Pitch 0.5mm, IPC High Density)
footprint QFN-MR64_M (QFN, 64-Leads, Body 9x9mm, Pitch 0.5mm, IPC Low Density)
pins: 1 PWM3H/RE5 (io), 2 PWM4L/RE6 (io), 3 PWM4H/RE7 (io), 4 SCK2/CN8/RG6 (io), 5 SDI2/CN9/RG7 (io), 6 SDO2/CN10/RG8 (io), 7 ~{MCLR} (in), 8 ~{SS2}/CN11/RG9 (io), 9 VSS (power), 10 VDD (power), 11 AN5/QEB/IC8/CN7/RB5 (io), 12 AN4/QEA/IC7/CN6/RB4 (io), 13 AN3/INDX/CN5/RB3 (io), 14 AN2/~{SS1}/CN4/RB2 (io), 15 PGEC3/AN1/VREF-/CN3/RB1 (io), 16 PGED3/AN0/VREF+/CN2/RB0 (io), 17 PGEC1/AN6/OCFA/RB6 (io), 18 PGED1/AN7/RB7 (io), 19 AVDD (power), 20 AVSS (power), 21 ~{U2CTS}/AN8/RB8 (io), 22 AN9/RB9 (io), 23 TMS/AN10/RB10 (io), 24 TDO/AN11/RB11 (io), 25 VSS (power), 26 VDD (power), 27 TCK/AN12/RB12 (io), 28 TDI/AN13/RB13 (io), 29 ~{U2RTS}/AN14/RB14 (io), 30 AN15/OCFB/CN12/RB15 (io), 31 U2RX/SDA2/CN17/RF4 (io), 32 U2TX/SCL2/CN18/RF5 (io), 33 U1TX/SDO1/RF3 (io), 34 U1RX/SDI1/RF2 (io), 35 ~{U1RTS}/SCK1/INT0/RF6 (io), 36 SDA1/RG3 (io), 37 SCL1/RG2 (io), 38 VDD (power), 39 OSC1/CLKIN/RC12 (io), 40 OSC2/CLKO/RC15 (io), 41 VSS (power), 42 IC1/~{FLTA}/INT1/RD8 (io), 43 IC2/~{U1CTS}/~{FLTB}/INT2/RD9 (io), 44 IC3/INT3/RD10 (io), 45 IC4/INT4/RD11 (io), 46 OC1/RD0 (io), 47 PGED2/SOSCI/T4CK/CN1/RC13 (io), 48 PGEC2/SOSCO/T1CK/CN0/RC14 (io), 49 OC2/RD1 (io), 50 OC3/RD2 (io), 51 OC4/RD3 (io), 52 OC5/IC5/CN13/RD4 (io), 53 OC6/IC6/CN14/RD5 (io), 54 OC7/CN15/RD6 (io), 55 OC8/UPDN/CN16/RD7 (io), 56 VCAP/VDDCORE (power), 57 VDD (power), 58 C1RX/RF0 (io), 59 C1TX/RF1 (io), 60 PWM1L/RE0 (io), 61 PWM1H/RE1 (io), 62 PWM2L/RE2 (io), 63 PWM2H/RE3 (io), 64 PWM3L/RE4 (io), 65 Thermal Pad

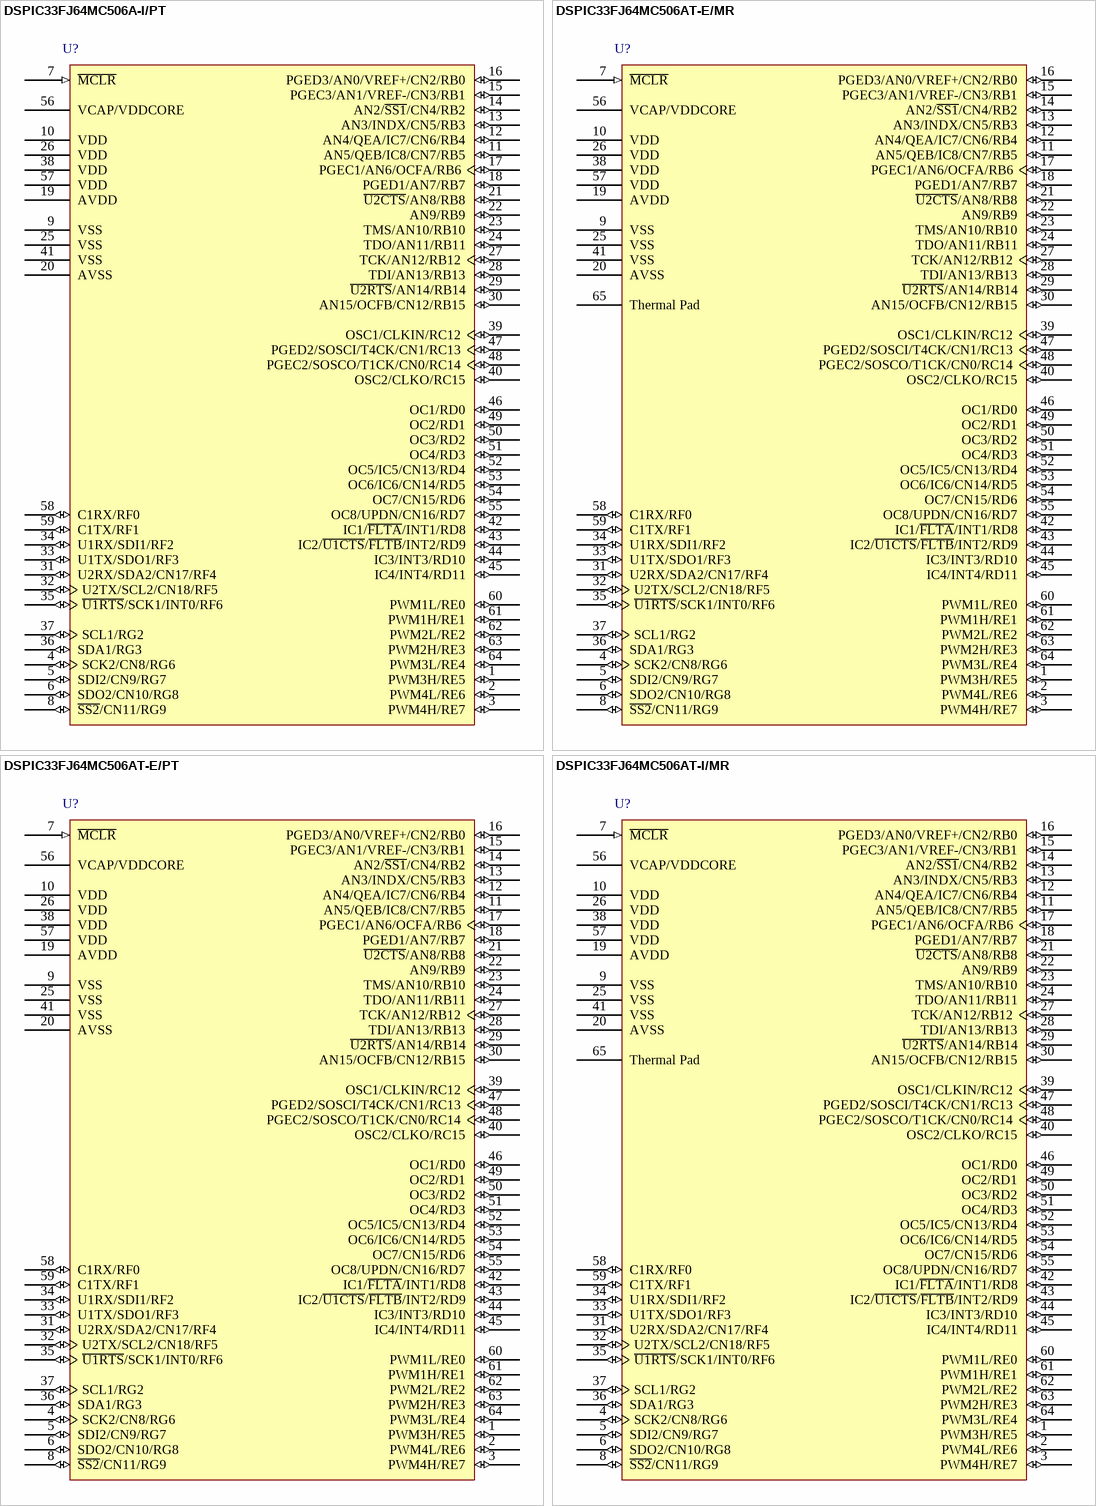
[diagram p51: symbols DSPIC33FJ64MC506A-I/PT to DSPIC33FJ64MC506AT-I/MR]